# Altium schematic symbol library chipfc_libs.SchLib: 124 symbols
Pins are listed as number, name and electrical type; pins without a type are passive.

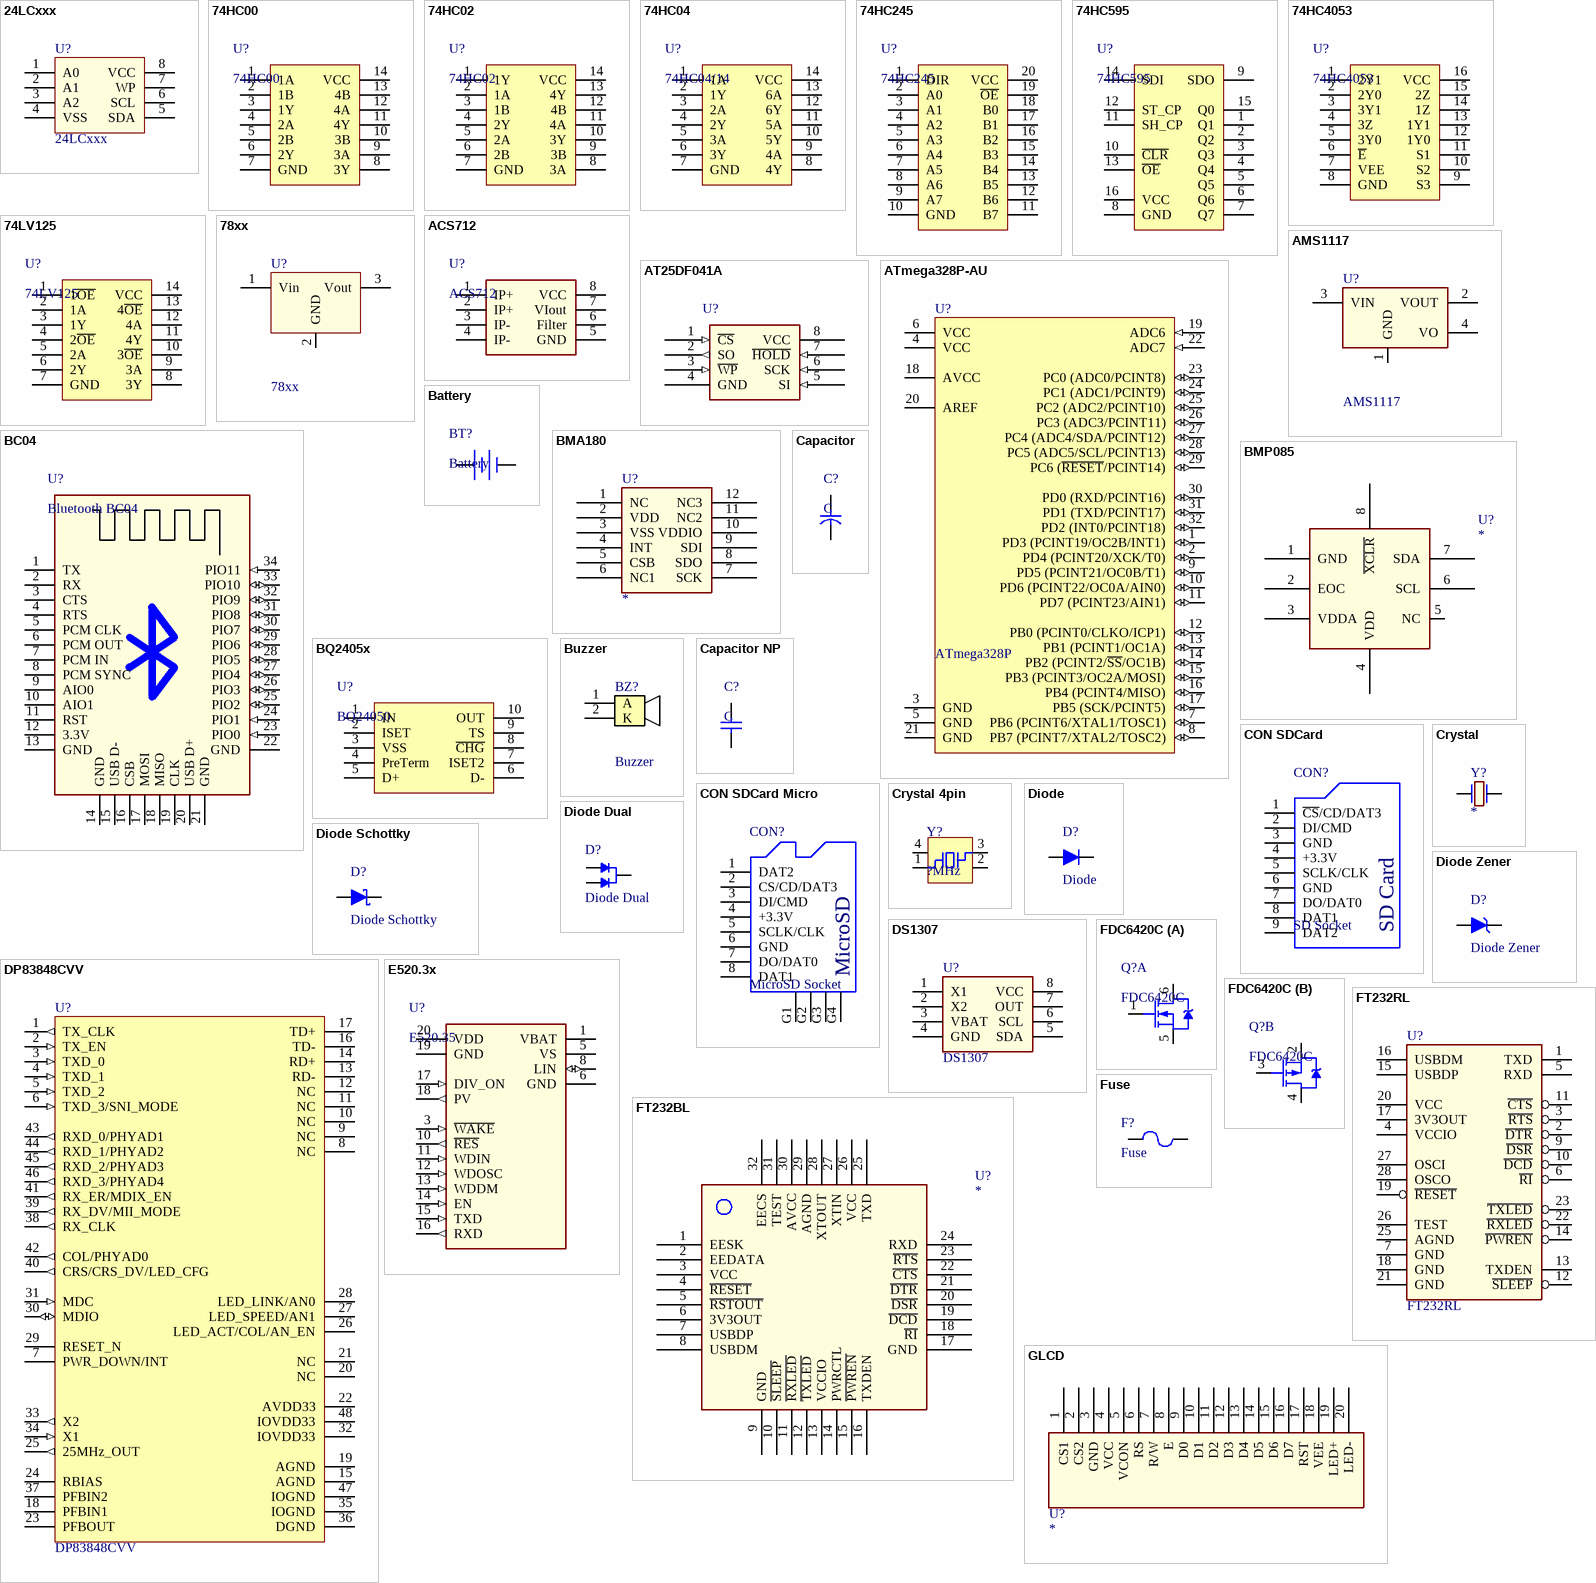
[diagram p0: symbols 24LCxxx to GLCD]

## 24LCxxx
designator U?
2-Wire Serial EEPROM
footprint SOIC-8 (SOIC, 8-Leads, Body 5.0x4.0mm (max), Pitch 1.27mm, IPC Medium Density)
footprint DIP 8 (DIP IC (2.54mm), 8 pins)
pins: 1 A0, 2 A1, 3 A2, 4 VSS, 5 SDA, 6 SCL, 7 WP, 8 VCC

## 74HC00
designator U?
Quad 2-input NAND gate
footprint SOIC-14 (SOIC, 14-Leads, Body 8.6x3.9mm (max), Pitch 1.27mm, IPC Medium Density)
pins: 1 1A, 2 1B, 3 1Y, 4 2A, 5 2B, 6 2Y, 7 GND, 8 3Y, 9 3A, 10 3B, 11 4Y, 12 4A, 13 4B, 14 VCC

## 74HC02
designator U?
Quad 2-input NOR gate
footprint SOIC-14 (SOIC, 14-Leads, Body 8.6x3.9mm (max), Pitch 1.27mm, IPC Medium Density)
pins: 1 1Y, 2 1A, 3 1B, 4 2Y, 5 2A, 6 2B, 7 GND, 8 3A, 9 3B, 10 3Y, 11 4A, 12 4B, 13 4Y, 14 VCC

## 74HC04
designator U?, comment 74HC04/14
Hex inverter
footprint SOIC-14 (SOIC, 14-Leads, Body 8.6x3.9mm (max), Pitch 1.27mm, IPC Medium Density)
pins: 1 1A, 2 1Y, 3 2A, 4 2Y, 5 3A, 6 3Y, 7 GND, 8 4Y, 9 4A, 10 5Y, 11 5A, 12 6Y, 13 6A, 14 VCC

## 74HC245
designator U?
Octal bus tranceiver, 3-state
footprint SOIC-20 (SOIC, 20-Leads, Body 12.8x7.5mm (max), Pitch 1.27mm, IPC Medium Density)
footprint DIP 20
pins: 1 DIR, 2 A0, 3 A1, 4 A2, 5 A3, 6 A4, 7 A5, 8 A6, 9 A7, 10 GND, 11 B7, 12 B6, 13 B5, 14 B4, 15 B3, 16 B2, 17 B1, 18 B0, 19 ~{OE}, 20 VCC

## 74HC595
designator U?
8-bit serial-in, serial or parallel-out  shift register with output latches;  3-state
footprint SOIC-16 (SOIC, 16-Leads, Body 10.0x4.0mm (max), Pitch 1.27mm, IPC Medium Density)
pins: 1 Q1, 2 Q2, 3 Q3, 4 Q4, 5 Q5, 6 Q6, 7 Q7, 8 GND, 9 SDO, 10 ~{CLR}, 11 SH_CP, 12 ST_CP, 13 ~{OE}, 14 SDI, 15 Q0, 16 VCC

## 74HC4053
designator U?
Triple 2-channel analog multiplexer/demultiplexer
footprint SOIC-16 (SOIC, 16-Leads, Body 10.0x4.0mm (max), Pitch 1.27mm, IPC Medium Density)
pins: 1 2Y1, 2 2Y0, 3 3Y1, 4 3Z, 5 3Y0, 6 ~{E}, 7 VEE, 8 GND, 9 S3, 10 S2, 11 S1, 12 1Y0, 13 1Y1, 14 1Z, 15 2Z, 16 VCC

## 74LV125
designator U?
Quad buffer/line driver; 3-state
footprint SOIC-14 (SOIC, 14-Leads, Body 8.6x3.9mm (max), Pitch 1.27mm, IPC Medium Density)
pins: 1 1~{OE}, 2 1A, 3 1Y, 4 2~{OE}, 5 2A, 6 2Y, 7 GND, 8 3Y, 9 3A, 10 3~{OE}, 11 4Y, 12 4A, 13 4~{OE}, 14 VCC

## 78xx
designator U?
LDO Fixed Voltage regulator
footprint TO-92; pin to pad 1>3 3>1
footprint TO-220
footprint TO-252 (DPAK) (D-PAK, 3-Pads, Body 6.2x6.7mm (max), IPC Medium Density)
footprint TO-220AB L
footprint TO-92/W100; pin to pad 1>3 3>1
pins: 1 Vin (power), 2 GND, 3 Vout

## ACS712
designator U?
Fully Integrated, Hall Effect-Based Linear Current Sensor IC   with 2.1 kVRMS Isolation and a Low-Resistance Current Conductor
footprint SOIC-8 (SOIC, 8-Leads, Body 5.0x4.0mm (max), Pitch 1.27mm, IPC Medium Density)
pins: 1 IP+, 2 IP+, 3 IP-, 4 IP-, 5 GND, 6 Filter, 7 VIout, 8 VCC

## AMS1117
designator U?
1A LDO Voltage Regulator, ADJ or fixed 1.5/1.8/2.5/2.85/3.3/5V
footprint SOT-223 (SOT223, 4-Leads, Body 6.7x7.3mm (max), Pitch 2.30mm, IPC Medium Density)
pins: 1 GND, 2 VOUT, 3 VIN (power), 4 VO

## AT25DF041A
designator U?
4Mb SPI Serial Flash Memory
footprint SOIC-8 (SOIC, 8-Leads, Body 5.0x4.0mm (max), Pitch 1.27mm, IPC Medium Density)
pins: 1 ~{CS} (in), 2 SO (out), 3 ~{WP} (in), 4 GND (power), 5 SI (in), 6 SCK (in), 7 ~{HOLD} (in), 8 VCC (power)

## ATmega328P-AU
designator U?, comment ATmega328P
8-bit AVR Microcontroller, 32KB Flash, 1KB EEPROM, 2KB SRAM, 32-pin TQFP, Industrial Grade (-40°C to 85°C)
footprint QFP 80P 32 (TQFP, 32-Leads, Body 9.0x9.0mm (max), Pitch 0.80mm, IPC Medium Density)
pins: 1 PD3 (PCINT19/OC2B/INT1) (io), 2 PD4 (PCINT20/XCK/T0) (io), 3 GND (power), 4 VCC (power), 5 GND (power), 6 VCC (power), 7 PB6 (PCINT6/XTAL1/TOSC1) (io), 8 PB7 (PCINT7/XTAL2/TOSC2) (io), 9 PD5 (PCINT21/OC0B/T1) (io), 10 PD6 (PCINT22/OC0A/AIN0) (io), 11 PD7 (PCINT23/AIN1) (io), 12 PB0 (PCINT0/CLKO/ICP1) (io), 13 PB1 (PCINT1/OC1A) (io), 14 PB2 (PCINT2/~{SS}/OC1B) (io), 15 PB3 (PCINT3/OC2A/MOSI) (io), 16 PB4 (PCINT4/MISO) (io), 17 PB5 (SCK/PCINT5) (io), 18 AVCC (power), 19 ADC6 (in), 20 AREF, 21 GND (power), 22 ADC7 (in), 23 PC0 (ADC0/PCINT8) (io), 24 PC1 (ADC1/PCINT9) (io), 25 PC2 (ADC2/PCINT10) (io), 26 PC3 (ADC3/PCINT11) (io), 27 PC4 (ADC4/SDA/PCINT12) (io), 28 PC5 (ADC5/SCL/PCINT13) (io), 29 PC6 (~{RESET}/PCINT14) (io), 30 PD0 (RXD/PCINT16) (io), 31 PD1 (TXD/PCINT17) (io), 32 PD2 (INT0/PCINT18) (io)

## Battery
designator BT?
footprint CON CR2032
footprint CON CR1220
footprint CR2032
footprint CR2450
footprint CR2450 DIP
footprint BB-BAT-18650-x1
pins: 1 V+, 2 V-

## BC04
designator U?, comment Bluetooth BC04
Bluetooth module uses CSR BlueCore4-External chipsets.
footprint BC04 (Bluetooth module uses CSR BlueCore4-External chipsets.)
pins: 1 TX, 2 RX, 3 CTS, 4 RTS, 5 PCM CLK, 6 PCM OUT, 7 PCM IN, 8 PCM SYNC, 9 AIO0, 10 AIO1, 11 RST, 12 3.3V, 13 GND, 14 GND, 15 USB D-, 16 CSB, 17 MOSI, 18 MISO, 19 CLK, 20 USB D+, 21 GND, 22 GND, 23 PIO0 (in), 24 PIO1 (in), 25 PIO2 (io), 26 PIO3 (io), 27 PIO4 (io), 28 PIO5 (io), 29 PIO6 (io), 30 PIO7 (io), 31 PIO8 (io), 32 PIO9 (io), 33 PIO10 (io), 34 PIO11 (in)

## BMA180
designator U?
pins: 1 NC, 2 VDD, 3 VSS, 4 INT, 5 CSB, 6 NC1, 7 SCK, 8 SDO, 9 SDI, 10 VDDIO, 11 NC2, 12 NC3

## BMP085
designator U?
pins: 1 GND (power), 2 EOC, 3 VDDA (power), 4 VDD (power), 5 NC, 6 SCL, 7 SDA, 8 ~{XCLR}

## BQ2405x
designator U?, comment BQ24050
800mA, Single Cell Li-Ion and Li-Pol Battery Charger With Automatic Adaptor and USB Detection
footprint QFN 40P 10N (QFN, 10-Leads, Body 2.1x2.1mm (max), Pitch 0.40mm, IPC Low Density)
pins: 1 IN, 2 ISET, 3 VSS, 4 PreTerm, 5 D+, 6 D-, 7 ISET2, 8 ~{CHG}, 9 TS, 10 OUT

## Buzzer
designator BZ?
footprint BUZZER
footprint Buzzer SMD
footprint BUZZER-2 (DC Buzzer 5V/12V)
pins: 1 A, 2 K

## Capacitor
designator C?, comment C
Capacitor pol
footprint C SMD TAN 1206 (A) (Molded Capacitor, 2-Leads, Body 3.2x1.6mm, IPC Medium Density)
footprint C SMD TAN 2312 (C) (Molded Capacitor, 2-Leads, Body 6.0x3.2mm, IPC Medium Density)
footprint C SMD TAN 2917 (E) (Molded Capacitor, 2-Leads, Body 7.3x4.3mm, IPC Medium Density)
footprint C SMD ALU (D) (SMD Aluminum Electrolytic Capacitor, size D (6.3 x 5.4 mm))
footprint C SMD ALU (D8) (SMD Aluminum Electrolytic Capacitor, size D8 (6.3 x 7.7 mm))
footprint C SMD ALU (B) (SMD Aluminum Electrolytic Capacitor, size D (4.0 x 5.4 mm))
footprint C SMD ALU (F) (SMD Aluminum Electrolytic Capacitor, size F (8.0 x 10.2 mm))
footprint C Super Case A
footprint C Super Case B
footprint CYL/D.200/LS.75
footprint CYL/D.250/LS.100
footprint CYL/D.300/LS.150
footprint CYL/D.400/LS.200
footprint CYL/D.500/LS.200
footprint CYL/D.650/LS.300
footprint CAP/D80/H125/LS30 (Dia 8mm, Heigh 12.5mm, Lead Space 3mm (4.7uF/400V small))
footprint CAP/D80/H125/LS35 (Dia 8mm, Heigh 12.5mm, Lead Space 3.5mm (470uF/16V small))
footprint CAP/D100/H125/LS50 (Dia 8mm, Heigh 12.5mm, Lead Space 3.5mm (470uF/16V small))
footprint CAP/D80/H90/LS35 (Dia 8mm, Heigh 12.5mm, Lead Space 3mm (4.7uF/400V small))
footprint C SMD ALU (F) DUAL (SMD Aluminum Electrolytic Capacitor, size F (8.0 x 10.2 mm))
footprint C SMD ALU (D8) DUAL (SMD Aluminum Electrolytic Capacitor, size D8 (6.3 x 7.7 mm))
footprint C SMD TAN 1210 (B) (Molded Capacitor, 2-Leads, Body 6.0x3.2mm, IPC Medium Density)
pins: 1, 2

## Capacitor NP
designator C?, comment C
Capacitor non-pol
footprint C 0402 (Chip Capacitor, 2-Leads, Body 1.0x0.5mm, IPC Medium Density)
footprint C 0603 (Chip Capacitor, 2-Leads, Body 1.6x0.8mm, IPC Medium Density)
footprint C 0805 (Chip Capacitor, 2-Leads, Body 2.0x1.3mm, IPC Medium Density)
footprint CAP Ceramic/W550
footprint CAP Ceramic/W200
footprint CAP Ceramic/W300
footprint CC 0402 (Chip Capacitor, 2-Leads, Body 1.0x0.5mm, IPC Medium Density)
footprint C 1210
footprint C 1206
footprint CAP Ceramic/D7.0/F7.5
pins: 1, 2

## CON SDCard
designator CON?, comment SD Socket
footprint CON SD
pins: 1 ~{CS}/CD/DAT3, 2 DI/CMD, 3 GND (power), 4 +3.3V (power), 5 SCLK/CLK, 6 GND (power), 7 DO/DAT0, 8 DAT1, 9 DAT2
text: SD Card

## CON SDCard Micro
designator CON?, comment MicroSD Socket
footprint CON SD Micro
pins: 1 DAT2, 2 CS/CD/DAT3, 3 DI/CMD (power), 4 +3.3V (power), 5 SCLK/CLK, 6 GND (power), 7 DO/DAT0, 8 DAT1, G1, G2, G3, G4
text: MicroSD

## Crystal
designator Y?
footprint Crystal DIP-2 (Available for crystal 32.768kHz)
footprint Crystal HC49S DIP
footprint Crystal HC49US SMD
footprint Crystal SMD 4PIN 32x25; pin to pad 2>3
footprint Crystal 3215 (Crystal 3.2mm x 1.5mm SMD)
pins: 1, 2

## Crystal 4pin
designator Y?, comment ?MHz
footprint Crystal SMD 4PIN 50x32
footprint Crystal SMD 4PIN 25x20
footprint Crystal SMD 4PIN 32x25
pins: 1 XTAL, 2 GND, 3 XTAL, 4 GND

## Diode
designator D?
Default Diode
footprint DO-214AC (SMA) (Molded Diode, 2-Leads, Body 4.3x2.7mm, IPC Medium Density)
footprint DO-41
footprint DO-214AB (SMC) (Molded Diode, 2-Leads, Body 7.9x5.8mm, IPC Low Density)
footprint DO-27
footprint Diode SOD80C Reflow
footprint Diode SOD80C Wave
footprint Diode SOD-123
footprint DO-35 (SOD27 )
footprint DO-214AC (SMA) L (Molded Diode, 2-Leads, Body 4.3x2.7mm, IPC Medium Density)
footprint Diode PowerDI123
footprint DO-214AA (SMB) L
pins: 1 A, 2 K

## Diode Dual
designator D?
Dual Default Diode
footprint SOT-23 (SOT23, 3-Leads, Body 3.0x2.5mm (max), Pitch 0.95mm, IPC Medium Density)
pins: 1 A1, 2 A2, 3 K

## Diode Schottky
designator D?
Schottky Diode
footprint DO-214AB (SMC) (Molded Diode, 2-Leads, Body 7.9x5.8mm, IPC Low Density)
footprint DO-214AC (SMA) (Molded Diode, 2-Leads, Body 4.3x2.7mm, IPC Medium Density)
footprint DO-27
footprint DO-41
pins: 1 A, 2 K

## Diode Zener
designator D?
Zener Diode
footprint DO-41
footprint DO-214AC (SMA) (Molded Diode, 2-Leads, Body 4.3x2.7mm, IPC Medium Density)
footprint DO-214AA (SMB) L
pins: 1 A, 2 K

## DP83848CVV
designator U?
footprint QFP 50P 48 (TSQFP, 48-Leads, Body 9.2x9.2mm (max), Pitch 0.50mm, IPC Medium Density)
pins: 1 TX_CLK (out), 2 TX_EN (in), 3 TXD_0 (in), 4 TXD_1 (in), 5 TXD_2 (in), 6 TXD_3/SNI_MODE (in), 7 PWR_DOWN/INT, 8 NC, 9 NC, 10 NC, 11 NC, 12 NC, 13 RD-, 14 RD+, 15 AGND, 16 TD-, 17 TD+, 18 PFBIN1, 19 AGND, 20 NC, 21 NC, 22 AVDD33, 23 PFBOUT, 24 RBIAS, 25 25MHz_OUT (out), 26 LED_ACT/COL/AN_EN, 27 LED_SPEED/AN1, 28 LED_LINK/AN0, 29 RESET_N, 30 MDIO (io), 31 MDC (in), 32 IOVDD33, 33 X2 (out), 34 X1 (in), 35 IOGND, 36 DGND, 37 PFBIN2, 38 RX_CLK (out), 39 RX_DV/MII_MODE (out), 40 CRS/CRS_DV/LED_CFG (out), 41 RX_ER/MDIX_EN (out), 42 COL/PHYAD0 (out), 43 RXD_0/PHYAD1 (out), 44 RXD_1/PHYAD2 (out), 45 RXD_2/PHYAD3 (out), 46 RXD_3/PHYAD4 (out), 47 IOGND, 48 IOVDD33

## DS1307
designator U?
footprint DIP 8 (DIP IC (2.54mm), 8 pins)
pins: 1 X1, 2 X2, 3 VBAT, 4 GND, 5 SDA, 6 SCL, 7 OUT, 8 VCC

## E520.3x
designator U?, comment E520.35
Elmos LIN SBC with Voltage Regulator and Watchdog
footprint QFN 65P 20 (QFN, 20-Leads, Body 5.0x5.0mm (max), Pitch 0.65mm, IPC Low Density)
pins: 1 VBAT (power), 3 ~{WAKE} (in), 5 VS (power), 6 GND (power), 8 LIN (io), 10 ~{RES} (out), 11 WDIN (in), 12 WDOSC (in), 13 WDDM (in), 14 EN (in), 15 TXD (in), 16 RXD (out), 17 DIV_ON (in), 18 PV (out), 19 GND (power), 20 VDD (power)

## FDC6420C
designator Q?
Fairchild 20V N & P-Channel PowerTrench MOSFETs
footprint SOT-23-6 (SOT23, 6-Leads, Body 3.0x3.0mm (max), Pitch 0.95mm, IPC Medium Density)
part A pins: 1 G, 5 S, 6 D
part B pins: 2 S, 3 G, 4 D

## FT232BL
designator U?
pins: 1 EESK, 2 EEDATA, 3 VCC (power), 4 ~{RESET}, 5 ~{RSTOUT}, 6 3V3OUT, 7 USBDP, 8 USBDM, 9 GND (power), 10 ~{SLEEP}, 11 ~{RXLED}, 12 ~{TXLED}, 13 VCCIO (power), 14 PWRCTL, 15 ~{PWREN}, 16 TXDEN, 17 GND (power), 18 ~{RI}, 19 ~{DCD}, 20 ~{DSR}, 21 ~{DTR}, 22 ~{CTS}, 23 ~{RTS}, 24 RXD, 25 TXD, 26 VCC (power), 27 XTIN, 28 XTOUT, 29 AGND (power), 30 AVCC (power), 31 TEST, 32 EECS

## FT232RL
designator U?
USB to serial UART interface
footprint TSSOP 28 65P (SOP, 28-Leads, Body 10.5x5.6mm (max), Pitch 0.65mm, IPC Medium Density)
pins: 1 TXD, 2 ~{DTR}, 3 ~{RTS}, 4 VCCIO, 5 RXD, 6 ~{RI}, 7 GND (power), 9 ~{DSR}, 10 ~{DCD}, 11 ~{CTS}, 12 ~{SLEEP}, 13 TXDEN, 14 ~{PWREN}, 15 USBDP, 16 USBDM, 17 3V3OUT, 18 GND (power), 19 ~{RESET}, 20 VCC (power), 21 GND (power), 22 ~{RXLED}, 23 ~{TXLED}, 25 AGND, 26 TEST, 27 OSCI, 28 OSCO

## Fuse
designator F?
footprint Fuse 1812P050 (Fuse 1812P050, 2-Leads, Body 4.5x3.2mm, IPC Medium Density)
footprint FUSE 4 DIP
footprint FUSE 2 DIP - KSD 9700
footprint FUSE 4 DIP 0520 (5mm x 20mm)
pins: 1, 2

## GLCD
designator U?
pins: 1 CS1, 2 CS2, 3 GND, 4 VCC, 5 VCON, 6 RS, 7 R/W, 8 E, 9 D0, 10 D1, 11 D2, 12 D3, 13 D4, 14 D5, 15 D6, 16 D7, 17 RST, 18 VEE, 19 LED+, 20 LED-

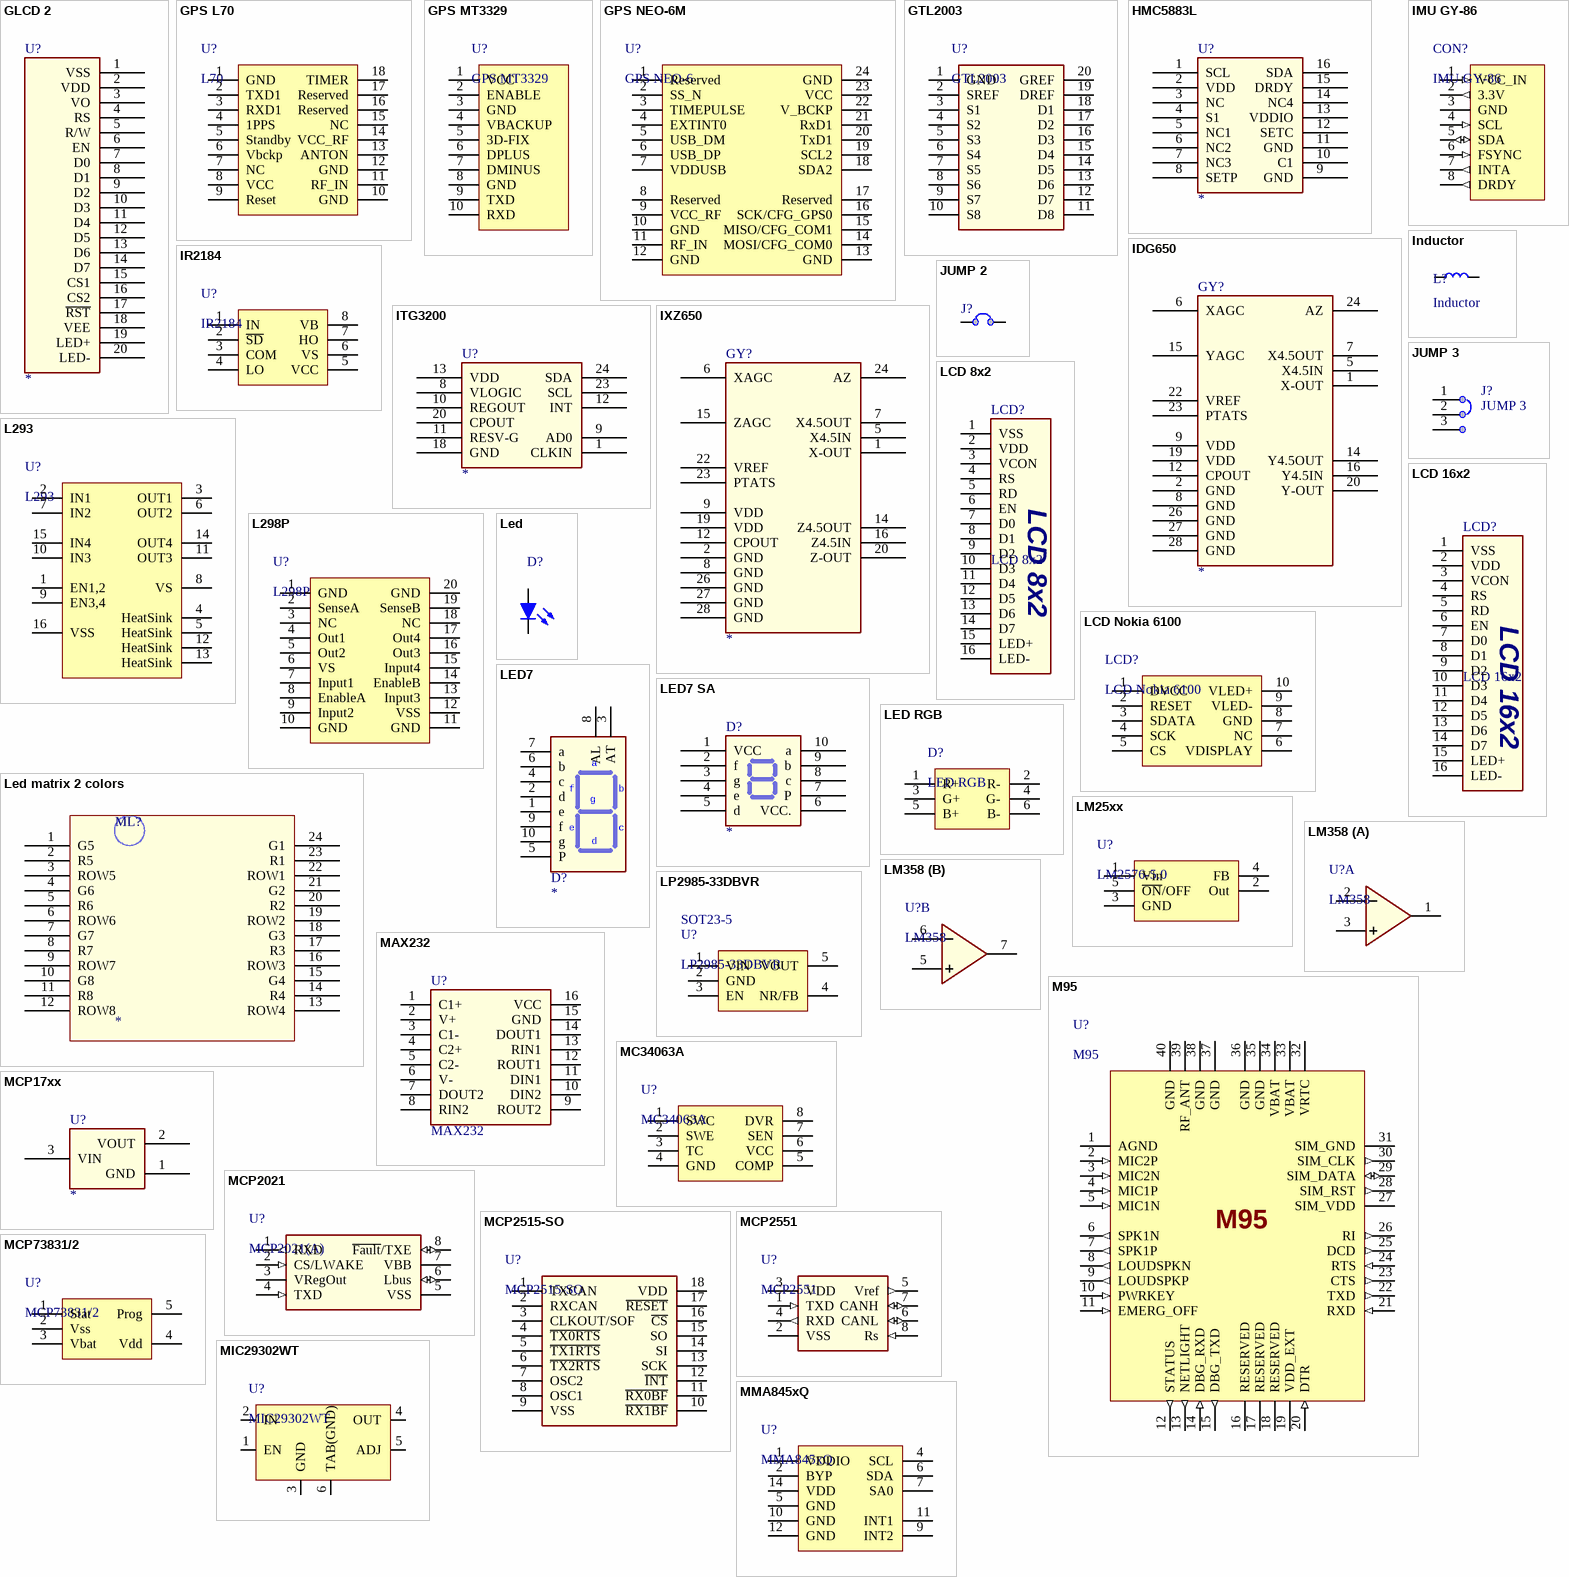
[diagram p1: symbols GLCD 2 to MMA845xQ]

## GLCD 2
designator U?
pins: 1 VSS, 2 VDD, 3 VO, 4 RS, 5 R/W, 6 EN, 7 D0, 8 D1, 9 D2, 10 D3, 11 D4, 12 D5, 13 D6, 14 D7, 15 CS1, 16 CS2, 17 ~{RST}, 18 VEE, 19 LED+, 20 LED-

## GPS L70
designator U?, comment L70
Quectel's GPS module L70
footprint GPS L70 (LCC, 18-Pins, Body 9.7x10.1mm (max), Pitch 1.10mm, IPC Medium Density)
pins: 1 GND, 2 TXD1, 3 RXD1, 4 1PPS, 5 Standby, 6 Vbckp, 7 NC, 8 VCC, 9 Reset, 10 GND, 11 RF_IN, 12 GND, 13 ANTON, 14 VCC_RF, 15 NC, 16 Reserved, 17 Reserved, 18 TIMER

## GPS MT3329
designator U?
66-channel GPS Engine Board Antenna Module with MTK Chipset MEDIATEK-3329
footprint GPS MT3329 (66-channel GPS Engine Board Antenna Module with MTK Chipset MEDIATEK-3329)
pins: 1 VCC, 2 ENABLE, 3 GND, 4 VBACKUP, 5 3D-FIX, 6 DPLUS, 7 DMINUS, 8 GND, 9 TXD, 10 RXD

## GPS NEO-6M
designator U?, comment GPS NEO-6
NEO-6 series Versatile u-blox 6 GPS modules
footprint GPS NEO-6
pins: 1 Reserved, 2 SS_N, 3 TIMEPULSE, 4 EXTINT0, 5 USB_DM, 6 USB_DP, 7 VDDUSB, 8 Reserved, 9 VCC_RF, 10 GND, 11 RF_IN, 12 GND, 13 GND, 14 MOSI/CFG_COM0, 15 MISO/CFG_COM1, 16 SCK/CFG_GPS0, 17 Reserved, 18 SDA2, 19 SCL2, 20 TxD1, 21 RxD1, 22 V_BCKP, 23 VCC, 24 GND

## GTL2003
designator U?
8-bit bidirectional low voltage translator
footprint TSSOP 20 65P (TSOP, 20-Leads, Body 6.6x4.5mm (max), Pitch 0.65mm, IPC Medium Density)
pins: 1 GND (power), 2 SREF, 3 S1, 4 S2, 5 S3, 6 S4, 7 S5, 8 S6, 9 S7, 10 S8, 11 D8, 12 D7, 13 D6, 14 D5, 15 D4, 16 D3, 17 D2, 18 D1, 19 DREF, 20 GREF

## HMC5883L
designator U?
pins: 1 SCL, 2 VDD (power), 3 NC, 4 S1, 5 NC1, 6 NC2, 7 NC3, 8 SETP, 9 GND (power), 10 C1, 11 GND (power), 12 SETC, 13 VDDIO, 14 NC4, 15 DRDY, 16 SDA

## IDG650
designator GY?
pins: 1 X-OUT, 2 GND (power), 5 X4.5IN, 6 XAGC, 7 X4.5OUT, 8 GND (power), 9 VDD (power), 12 CPOUT, 14 Y4.5OUT, 15 YAGC, 16 Y4.5IN, 19 VDD (power), 20 Y-OUT, 22 VREF, 23 PTATS, 24 AZ, 26 GND (power), 27 GND (power), 28 GND (power)

## IMU GY-86
designator CON?
IMU GY-86, includes MPU6050, HMC5883L, MS5611
footprint IMU GY-86 (IMU GY-86, includes MPU6050, HMC5883L, MS5611)
pins: 1 VCC_IN (in), 2 3.3V (out), 3 GND (power), 4 SCL (in), 5 SDA (io), 6 FSYNC (in), 7 INTA (out), 8 DRDY (out)

## Inductor
designator L?
footprint Inductor SMD 12x12x8 (Precision Wire Wound Inductor, 2-Leads, Body 12.3x12.3mm, IPC Low Density)
footprint R 1/4W
footprint Inductor SMD 8.3x8.3x4.5 (Precision Wire Wound Inductor, 2-Leads, Body 10.0x8.0mm, IPC Low Density)
footprint Inductor SMD 0805 (2012) (Precision Wire Wound Inductor, 2-Leads, Body 2.0x1.2mm, IPC Medium Density)
footprint Inductor SMD 1210 (3225) (Precision Wire Wound Inductor, 2-Leads, Body 3.2x2.5mm, IPC Medium Density)
footprint Inductor SMD 7.5x7.0x5.0 (Precision Wire Wound Inductor, 2-Leads, Body 7.5x7.0mm, IPC Medium Density)
footprint Inductor SMD CDRH8D43 (Precision Wire Wound Inductor, 2-Leads, Body 10.0x8.0mm, IPC Low Density)
footprint Inductor SMD CDRH3D48 (Precision Wire Wound Inductor, 2-Leads, Body 10.0x8.0mm, IPC Low Density)
footprint Inductor SMD CDRH3D67 (Precision Wire Wound Inductor, 2-Leads, Body 10.0x8.0mm, IPC Low Density)
footprint L 0402 (1005) (Chip Capacitor, 2-Leads, Body 1.0x0.5mm, IPC Medium Density)
footprint L 0603 (1608) (Chip Capacitor, 2-Leads, Body 1.6x0.8mm, IPC Medium Density)
footprint L 0805 (2012) (Chip Capacitor, 2-Leads, Body 2.0x1.3mm, IPC Medium Density)
footprint LL 0402 (Chip Capacitor, 2-Leads, Body 1.0x0.5mm, IPC Medium Density)
footprint L/D9H12 (inductor)
footprint L/D8H10 (inductor Dia (7.80mm) Heigh (10.00mm))
pins: 1, 2

## IR2184
designator U?
Half-bridge driver
footprint DIP 8 (DIP IC (2.54mm), 8 pins)
footprint SOIC-8 (SOIC, 8-Leads, Body 5.0x4.0mm (max), Pitch 1.27mm, IPC Medium Density)
pins: 1 IN, 2 ~{SD}, 3 COM, 4 LO, 5 VCC, 6 VS, 7 HO, 8 VB

## ITG3200
designator U?
pins: 1 CLKIN, 8 VLOGIC (power), 9 AD0, 10 REGOUT, 11 RESV-G, 12 INT, 13 VDD (power), 18 GND (power), 20 CPOUT, 23 SCL, 24 SDA

## IXZ650
designator GY?
pins: 1 X-OUT, 2 GND (power), 5 X4.5IN, 6 XAGC, 7 X4.5OUT, 8 GND (power), 9 VDD (power), 12 CPOUT, 14 Z4.5OUT, 15 ZAGC, 16 Z4.5IN, 19 VDD (power), 20 Z-OUT, 22 VREF, 23 PTATS, 24 AZ, 26 GND (power), 27 GND (power), 28 GND (power)

## JUMP 2
designator J?  (value not drawn)  (no BOM)
footprint JUMP/2/Close
footprint JUMP/2/Open
footprint JUMP/2/SMD/0402
footprint JUMP/2/SMD/0603 (Chip Resistor, 2-Leads, Body 1.6x0.8mm, IPC Medium Density)
footprint JUMP/2/SMD/0805 (Chip Resistor, 2-Leads, Body 2.0x1.3mm, IPC Medium Density)
footprint JUMP/2/SMD/C (Chip Resistor, 2-Leads, Body 1.6x0.8mm, IPC Medium Density)
pins: 1, 2

## JUMP 3
designator J?  (no BOM)
footprint JUMP3 SMD
footprint JUMP3
pins: 1, 2, 3

## L293
designator U?
Quadruple Half-H drivers
footprint DIP 16
pins: 1 EN1,2, 2 IN1, 3 OUT1, 4 HeatSink, 5 HeatSink, 6 OUT2, 7 IN2, 8 VS, 9 EN3,4, 10 IN3, 11 OUT3, 12 HeatSink, 13 HeatSink, 14 OUT4, 15 IN4, 16 VSS

## L298P
designator U?
Dual Full-Bridge driver
footprint PowerSO20 (SOIC, 20-Leads, Body 16.0x11.1mm (max), Pitch 1.27mm, IPC Low Density)
pins: 1 GND, 2 SenseA, 3 NC, 4 Out1, 5 Out2, 6 VS, 7 Input1, 8 EnableA, 9 Input2, 10 GND, 11 GND, 12 VSS, 13 Input3, 14 EnableB, 15 Input4, 16 Out3, 17 Out4, 18 NC, 19 SenseB, 20 GND

## LCD 8x2
designator LCD?
Character LCD 8x2
footprint LCD 8x2
pins: 1 VSS, 2 VDD, 3 VCON, 4 RS, 5 RD, 6 EN, 7 D0, 8 D1, 9 D2, 10 D3, 11 D4, 12 D5, 13 D6, 14 D7, 15 LED+, 16 LED-

## LCD 16x2
designator LCD?
Character LCD 16x2
footprint LCD 16x2
footprint LCD 1602A
footprint LCD 1602B
pins: 1 VSS, 2 VDD, 3 VCON, 4 RS, 5 RD, 6 EN, 7 D0, 8 D1, 9 D2, 10 D3, 11 D4, 12 D5, 13 D6, 14 D7, 15 LED+, 16 LED-

## LCD Nokia 6100
designator LCD?
footprint LCD NOKIA 6100
pins: 1 DVCC, 2 RESET, 3 SDATA, 4 SCK, 5 CS, 6 VDISPLAY, 7 NC, 8 GND, 9 VLED-, 10 VLED+

## Led
designator D?
Typical LED
footprint Led 0805 (Led SMD 0805)
footprint Led 0603 - green (Led SMD 0603)
footprint Led 0603 - orange (Led SMD 0603)
footprint Led 0603 - red (Led SMD 0603)
footprint Led 0603 - yellow (Led SMD 0603)
footprint Led 0603 (Led SMD 0603)
footprint LED 3MM - green
footprint LED 3MM - red
footprint LED 5MM - GREEN
footprint LED 5MM - RED
footprint LED 5MM - WHITE
footprint Led 0805 Blue (Led SMD 0805)
footprint Led 0805 Green (Led SMD 0805)
footprint Led 0805 RED (Led SMD 0805)
footprint LED 3MM - blue
footprint LED 3MM - yellow
pins: 1 A, 2 K

## LED7
designator D?
footprint LED7 CA
pins: 1 e, 2 d, 3 AT, 4 c, 5 P, 6 b, 7 a, 8 AL, 9 f, 10 g

## LED7 SA
designator D?
pins: 1 VCC, 2 f, 3 g, 4 e, 5 d, 6 VCC., 7 P, 8 c, 9 b, 10 a

## Led matrix 2 colors
designator ML?
pins: 1 G5, 2 R5, 3 ROW5, 4 G6, 5 R6, 6 ROW6, 7 G7, 8 R7, 9 ROW7, 10 G8, 11 R8, 12 ROW8, 13 ROW4, 14 R4, 15 G4, 16 ROW3, 17 R3, 18 G3, 19 ROW2, 20 R2, 21 G2, 22 ROW1, 23 R1, 24 G1

## LED RGB
designator D?
footprint LED RGB 5050
pins: 1 R+, 2 R-, 3 G+, 4 G-, 5 B+, 6 B-

## LM25xx
designator U?, comment LM2576-5.0
Simple Switcher 3A Step-Down Voltage Regulator
footprint TO-263-5 (D2-PAK, 6-Pads, Body 8.9x10.4mm (max), IPC Medium Density)
footprint TO-220-5
pins: 1 Vin, 2 Out, 3 GND, 4 FB, 5 ~{ON}/OFF

## LM358
designator U?
Low Power Dual Operational Amplifiers
footprint DIP 8 (DIP IC (2.54mm), 8 pins)
footprint SOIC-8 (SOIC, 8-Leads, Body 5.0x4.0mm (max), Pitch 1.27mm, IPC Medium Density)
part A pins: 1 OutA, 2 A-, 3 A+, 4 GND hidden to GND, 8 VCC hidden to VCC
part B pins: 5 B+, 6 B-, 7 OutB

## LP2985-33DBVR
designator U?  PACKAGE: SOT23-5
IC REG LDO 3.3V 0.15A SOT23-5; TYPE: SMD
footprint SOT-23-5 (SOT23, 5-Leads, Body 3.0x3.0mm (max), Pitch 0.95mm, IPC Medium Density)
pins: 1 VIN, 2 GND, 3 EN, 4 NR/FB, 5 VOUT

## M95
designator U?
Quectel's Cellular Engine
footprint M95 (LCC, 54-Pins, Body 19.9x23.6mm (max), Pitch 1.10mm, IPC Medium Density)
footprint M95 2 (LCC, 54-Pins, Body 19.9x23.6mm (max), Pitch 1.10mm, IPC Medium Density)
pins: 1 AGND (power), 2 MIC2P (in), 3 MIC2N (in), 4 MIC1P (in), 5 MIC1N (in), 6 SPK1N (out), 7 SPK1P (out), 8 LOUDSPKN (out), 9 LOUDSPKP (out), 10 PWRKEY (in), 11 EMERG_OFF (in), 12 STATUS (out), 13 NETLIGHT (out), 14 DBG_RXD (in), 15 DBG_TXD (out), 16 RESERVED, 17 RESERVED, 18 RESERVED, 19 VDD_EXT (power), 20 DTR (in), 21 RXD (in), 22 TXD (out), 23 CTS (out), 24 RTS (in), 25 DCD (out), 26 RI (out), 27 SIM_VDD (power), 28 SIM_RST (out), 29 SIM_DATA (io), 30 SIM_CLK (out), 31 SIM_GND (power), 32 VRTC (power), 33 VBAT (power), 34 VBAT (power), 35 GND (power), 36 GND (power), 37 GND (power), 38 GND (power), 39 RF_ANT, 40 GND (power)

## MAX232
designator U?
RS-232 Line Driver/Receiver
footprint SOIC-16 (SOIC, 16-Leads, Body 10.0x4.0mm (max), Pitch 1.27mm, IPC Medium Density)
pins: 1 C1+, 2 V+, 3 C1-, 4 C2+, 5 C2-, 6 V-, 7 DOUT2, 8 RIN2, 9 ROUT2, 10 DIN2, 11 DIN1, 12 ROUT1, 13 RIN1, 14 DOUT1, 15 GND, 16 VCC

## MC34063A
designator U?
1.5A peak Boost/Buck/Inverting switching regulator
footprint SOIC-8 (SOIC, 8-Leads, Body 5.0x4.0mm (max), Pitch 1.27mm, IPC Medium Density)
pins: 1 SWC, 2 SWE, 3 TC, 4 GND, 5 COMP, 6 VCC, 7 SEN, 8 DVR

## MCP17xx
designator U?
pins: 1 GND (power), 2 VOUT (power), 3 VIN (power)

## MCP2021
designator U?, comment MCP2021(A)
LIN Transceiver with Voltage Regulator
footprint SOIC-8 (SOIC, 8-Leads, Body 5.0x4.0mm (max), Pitch 1.27mm, IPC Medium Density)
pins: 1 RXD (out), 2 CS/LWAKE (in), 3 VRegOut (power), 4 TXD (in), 5 VSS (power), 6 Lbus (io), 7 VBB (power), 8 ~{Fault}/TXE (io)

## MCP2515-SO
designator U?
Stand-Alone CAN Controller with SPI Interface
footprint SOIC-20 (SOIC, 20-Leads, Body 12.8x7.5mm (max), Pitch 1.27mm, IPC Medium Density)
pins: 1 TXCAN, 2 RXCAN, 3 CLKOUT/SOF, 4 ~{TX0RTS}, 5 ~{TX1RTS}, 6 ~{TX2RTS}, 7 OSC2, 8 OSC1, 9 VSS, 10 ~{RX1BF}, 11 ~{RX0BF}, 12 ~{INT}, 13 SCK, 14 SI, 15 SO, 16 ~{CS}, 17 ~{RESET}, 18 VDD

## MCP2551
designator U?
High-Speed CANTransceiver
footprint SOIC-8 (SOIC, 8-Leads, Body 5.0x4.0mm (max), Pitch 1.27mm, IPC Medium Density)
footprint DIP 8 (DIP IC (2.54mm), 8 pins)
pins: 1 TXD (in), 2 VSS (power), 3 VDD (power), 4 RXD (out), 5 Vref (out), 6 CANL (io), 7 CANH (io), 8 Rs (in)

## MCP73831/2
designator U?
Miniature Single-Cell, Fully Integrated Li-Ion, Li-Polymer Charge Management Controllers
footprint SOT-23-5 (SOT23, 5-Leads, Body 3.0x3.0mm (max), Pitch 0.95mm, IPC Medium Density)
pins: 1 Stat, 2 Vss, 3 Vbat, 4 Vdd, 5 Prog

## MIC29302WT
designator U?
3.0A LDO Regulator with ADJ. voltage output
footprint TO-263-5 (D2-PAK, 6-Pads, Body 8.9x10.4mm (max), IPC Medium Density)
pins: 1 EN, 2 IN, 3 GND, 4 OUT, 5 ADJ, 6 TAB(GND)

## MMA845xQ
designator U?
Freescale's 3-axis digital accelerometer
footprint MMA845xQ (QFN, 16-Leads, Body 3.0x3.0mm (max), Pitch 0.50mm, IPC Low Density)
pins: 1 VDDIO, 2 BYP, 4 SCL, 5 GND, 6 SDA, 7 SA0, 9 INT2, 10 GND, 11 INT1, 12 GND, 14 VDD

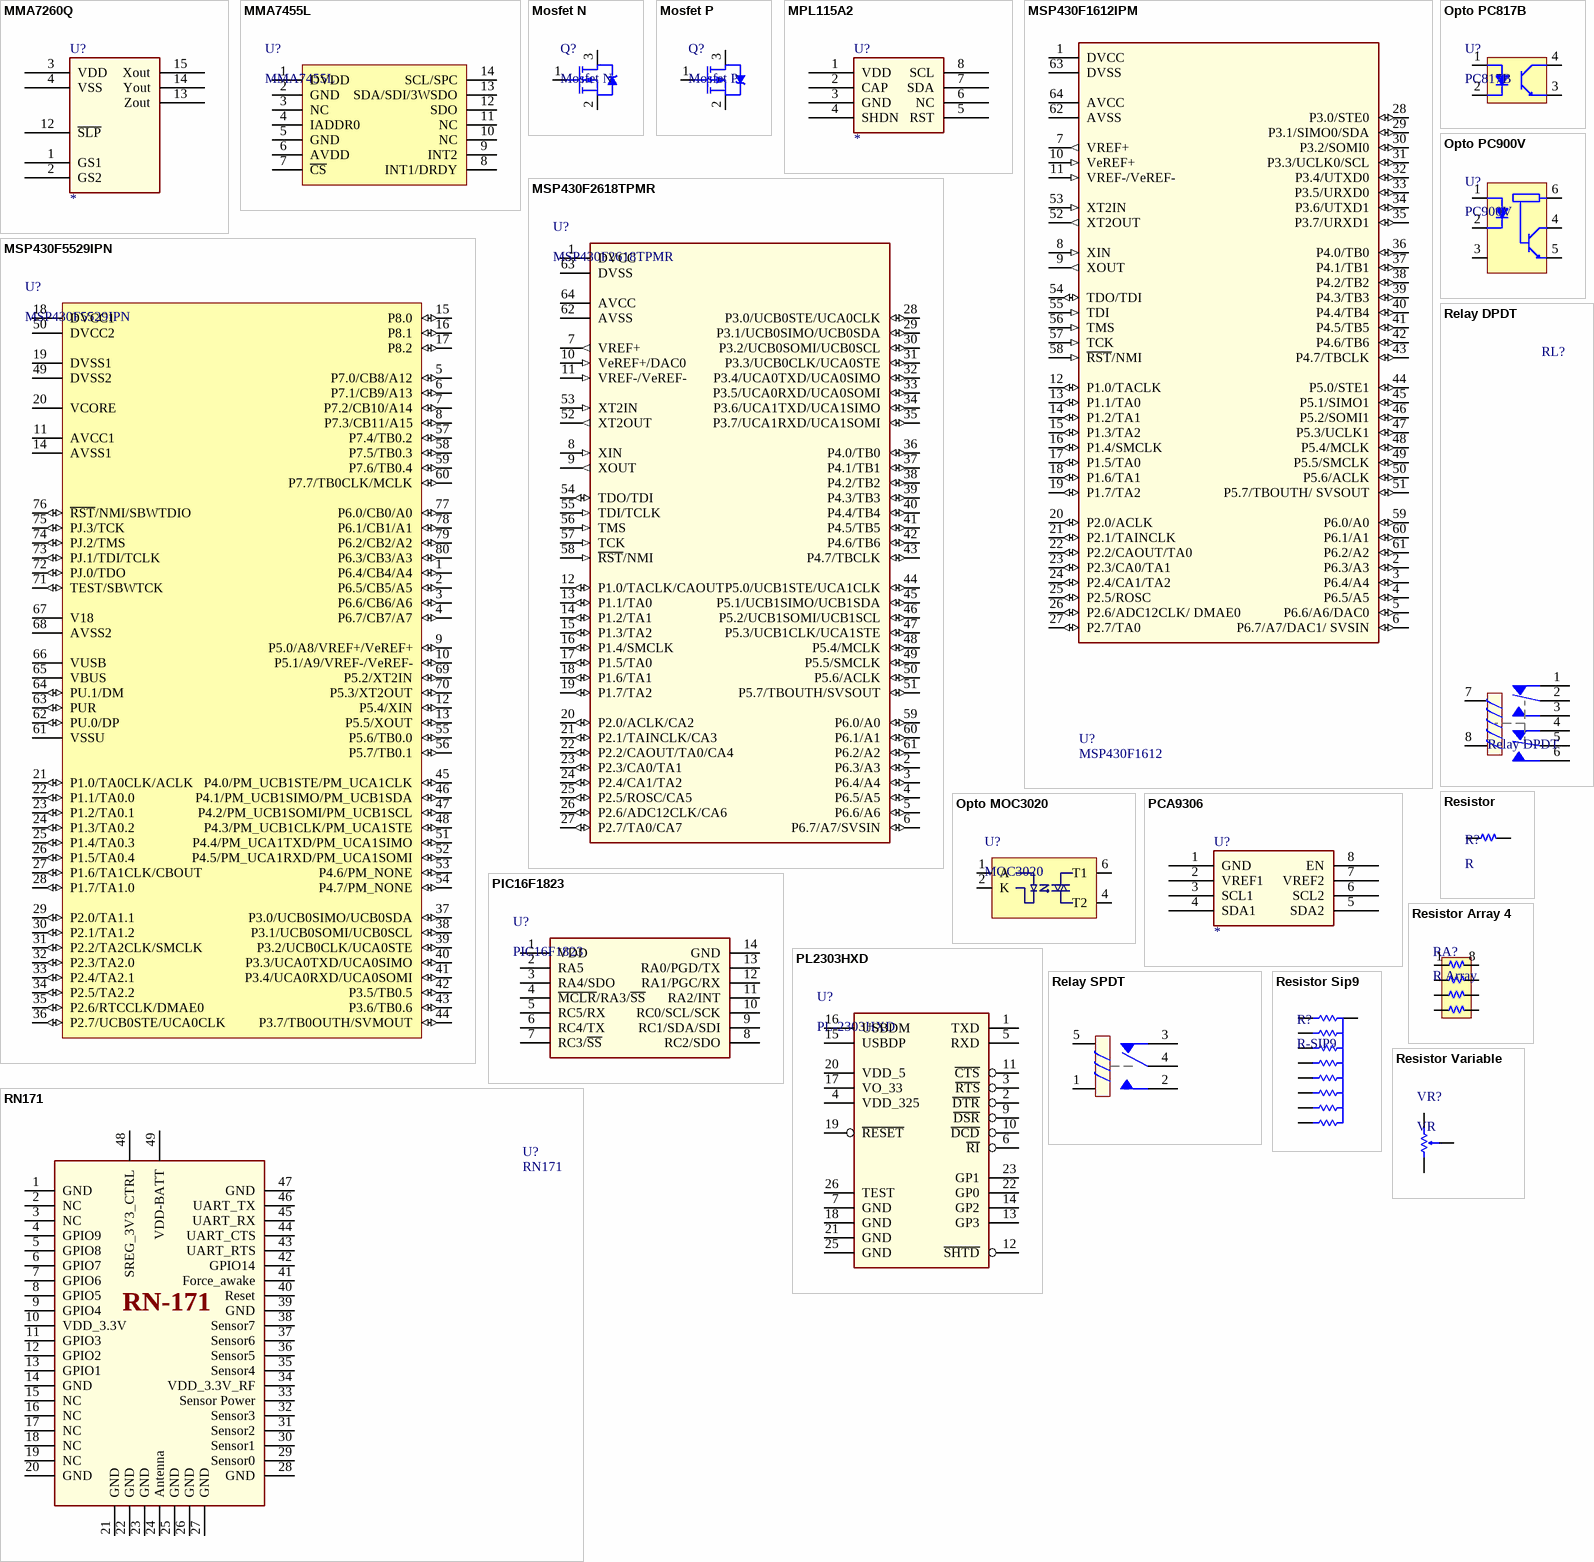
[diagram p2: symbols MMA7260Q to RN171]

## MMA7260Q
designator U?
pins: 1 GS1, 2 GS2, 3 VDD (power), 4 VSS (power), 12 ~{SLP}, 13 Zout, 14 Yout, 15 Xout

## MMA7455L
designator U?
±2g/±4g/±8g Three Axis Low-g Digital Output Accelerometer
footprint LGA-14 (LCC, 14-Pins, Body 3.0x5.0mm (max), Pitch 0.80mm, IPC Medium Density)
pins: 1 DVDD, 2 GND, 3 NC, 4 IADDR0, 5 GND, 6 AVDD, 7 ~{CS}, 8 INT1/DRDY, 9 INT2, 10 NC, 11 NC, 12 SDO, 13 SDA/SDI/3WSDO, 14 SCL/SPC

## Mosfet N
designator Q?
footprint SOT-23 (SOT23, 3-Leads, Body 3.0x2.5mm (max), Pitch 0.95mm, IPC Medium Density)
footprint TO-220; pin to pad 2>3 3>2
footprint SOIC-8 (SOIC, 8-Leads, Body 5.0x4.0mm (max), Pitch 1.27mm, IPC Medium Density); pin to pad 1>4 2>1+2+3 3>5+6+7+8
footprint TO-220/HeatSink; pin to pad 2>3 3>2
footprint TO-252 (DPAK) (D-PAK, 3-Pads, Body 6.2x6.7mm (max), IPC Medium Density); pin to pad 2>3 3>2
footprint TO-263 (D2PAK); pin to pad 2>3 3>2
pins: 1 G, 2 S, 3 D

## Mosfet P
designator Q?
footprint SOT-23 (SOT23, 3-Leads, Body 3.0x2.5mm (max), Pitch 0.95mm, IPC Medium Density)
footprint TO-220; pin to pad 2>3 3>2
footprint TO-220/HeatSink; pin to pad 2>3 3>2
footprint SOIC-8 (SOIC, 8-Leads, Body 5.0x4.0mm (max), Pitch 1.27mm, IPC Medium Density); pin to pad 1>4 2>1+2+3 3>5+6+7+8
footprint TO-252 (DPAK) (D-PAK, 3-Pads, Body 6.2x6.7mm (max), IPC Medium Density); pin to pad 2>3 3>2
footprint TO-263 (D2PAK); pin to pad 2>3 3>2
pins: 1 G, 2 S, 3 D

## MPL115A2
designator U?
pins: 1 VDD, 2 CAP, 3 GND, 4 SHDN, 5 RST, 6 NC, 7 SDA, 8 SCL

## MSP430F1612IPM
designator U?, comment MSP430F1612
footprint QFP 50P 64 (TSQFP, 64-Leads, Body 12.0x12.0mm (max), Pitch 0.50mm, IPC Medium Density)
pins: 1 DVCC (power), 2 P6.3/A3 (io), 3 P6.4/A4 (io), 4 P6.5/A5 (io), 5 P6.6/A6/DAC0 (io), 6 P6.7/A7/DAC1/ SVSIN (io), 7 VREF+ (out), 8 XIN (in), 9 XOUT (out), 10 VeREF+ (in), 11 VREF-/VeREF- (in), 12 P1.0/TACLK (io), 13 P1.1/TA0 (io), 14 P1.2/TA1 (io), 15 P1.3/TA2 (io), 16 P1.4/SMCLK (io), 17 P1.5/TA0 (io), 18 P1.6/TA1 (io), 19 P1.7/TA2 (io), 20 P2.0/ACLK (io), 21 P2.1/TAINCLK (io), 22 P2.2/CAOUT/TA0 (io), 23 P2.3/CA0/TA1 (io), 24 P2.4/CA1/TA2 (io), 25 P2.5/ROSC (io), 26 P2.6/ADC12CLK/ DMAE0 (io), 27 P2.7/TA0 (io), 28 P3.0/STE0 (io), 29 P3.1/SIMO0/SDA (io), 30 P3.2/SOMI0 (io), 31 P3.3/UCLK0/SCL (io), 32 P3.4/UTXD0 (io), 33 P3.5/URXD0 (io), 34 P3.6/UTXD1 (io), 35 P3.7/URXD1 (io), 36 P4.0/TB0 (io), 37 P4.1/TB1 (io), 38 P4.2/TB2 (io), 39 P4.3/TB3 (io), 40 P4.4/TB4 (io), 41 P4.5/TB5 (io), 42 P4.6/TB6 (io), 43 P4.7/TBCLK (io), 44 P5.0/STE1 (io), 45 P5.1/SIMO1 (io), 46 P5.2/SOMI1 (io), 47 P5.3/UCLK1 (io), 48 P5.4/MCLK (io), 49 P5.5/SMCLK (io), 50 P5.6/ACLK (io), 51 P5.7/TBOUTH/ SVSOUT (io), 52 XT2OUT (out), 53 XT2IN (in), 54 TDO/TDI (io), 55 TDI (in), 56 TMS (in), 57 TCK (in), 58 ~{RST}/NMI (in), 59 P6.0/A0 (io), 60 P6.1/A1 (io), 61 P6.2/A2 (io), 62 AVSS (power), 63 DVSS (power), 64 AVCC (power)

## MSP430F2618TPMR
designator U?
footprint QFP 50P 64 (TSQFP, 64-Leads, Body 12.0x12.0mm (max), Pitch 0.50mm, IPC Medium Density)
pins: 1 DVCC (power), 2 P6.3/A3 (io), 3 P6.4/A4 (io), 4 P6.5/A5 (io), 5 P6.6/A6 (io), 6 P6.7/A7/SVSIN (io), 7 VREF+ (out), 8 XIN (in), 9 XOUT (out), 10 VeREF+/DAC0 (in), 11 VREF-/VeREF- (in), 12 P1.0/TACLK/CAOUT (io), 13 P1.1/TA0 (io), 14 P1.2/TA1 (io), 15 P1.3/TA2 (io), 16 P1.4/SMCLK (io), 17 P1.5/TA0 (io), 18 P1.6/TA1 (io), 19 P1.7/TA2 (io), 20 P2.0/ACLK/CA2 (io), 21 P2.1/TAINCLK/CA3 (io), 22 P2.2/CAOUT/TA0/CA4 (io), 23 P2.3/CA0/TA1 (io), 24 P2.4/CA1/TA2 (io), 25 P2.5/ROSC/CA5 (io), 26 P2.6/ADC12CLK/CA6 (io), 27 P2.7/TA0/CA7 (io), 28 P3.0/UCB0STE/UCA0CLK (io), 29 P3.1/UCB0SIMO/UCB0SDA (io), 30 P3.2/UCB0SOMI/UCB0SCL (io), 31 P3.3/UCB0CLK/UCA0STE (io), 32 P3.4/UCA0TXD/UCA0SIMO (io), 33 P3.5/UCA0RXD/UCA0SOMI (io), 34 P3.6/UCA1TXD/UCA1SIMO (io), 35 P3.7/UCA1RXD/UCA1SOMI (io), 36 P4.0/TB0 (io), 37 P4.1/TB1 (io), 38 P4.2/TB2 (io), 39 P4.3/TB3 (io), 40 P4.4/TB4 (io), 41 P4.5/TB5 (io), 42 P4.6/TB6 (io), 43 P4.7/TBCLK (io), 44 P5.0/UCB1STE/UCA1CLK (io), 45 P5.1/UCB1SIMO/UCB1SDA (io), 46 P5.2/UCB1SOMI/UCB1SCL (io), 47 P5.3/UCB1CLK/UCA1STE (io), 48 P5.4/MCLK (io), 49 P5.5/SMCLK (io), 50 P5.6/ACLK (io), 51 P5.7/TBOUTH/SVSOUT (io), 52 XT2OUT (out), 53 XT2IN (in), 54 TDO/TDI (io), 55 TDI/TCLK (in), 56 TMS (in), 57 TCK (in), 58 ~{RST}/NMI (in), 59 P6.0/A0 (io), 60 P6.1/A1 (io), 61 P6.2/A2 (io), 62 AVSS (power), 63 DVSS (power), 64 AVCC (power)

## MSP430F5529IPN
designator U?
footprint QFP 50P 80 (TSQFP, 80-Leads, Body 14.2x14.2mm (max), Pitch 0.50mm, IPC Medium Density)
pins: 1 P6.4/CB4/A4 (io), 2 P6.5/CB5/A5 (io), 3 P6.6/CB6/A6 (io), 4 P6.7/CB7/A7 (io), 5 P7.0/CB8/A12 (io), 6 P7.1/CB9/A13 (io), 7 P7.2/CB10/A14 (io), 8 P7.3/CB11/A15 (io), 9 P5.0/A8/VREF+/VeREF+ (io), 10 P5.1/A9/VREF-/VeREF- (io), 11 AVCC1 (power), 12 P5.4/XIN (io), 13 P5.5/XOUT (io), 14 AVSS1 (power), 15 P8.0 (io), 16 P8.1 (io), 17 P8.2 (io), 18 DVCC1 (power), 19 DVSS1 (power), 20 VCORE (power), 21 P1.0/TA0CLK/ACLK (io), 22 P1.1/TA0.0 (io), 23 P1.2/TA0.1 (io), 24 P1.3/TA0.2 (io), 25 P1.4/TA0.3 (io), 26 P1.5/TA0.4 (io), 27 P1.6/TA1CLK/CBOUT (io), 28 P1.7/TA1.0 (io), 29 P2.0/TA1.1 (io), 30 P2.1/TA1.2 (io), 31 P2.2/TA2CLK/SMCLK (io), 32 P2.3/TA2.0 (io), 33 P2.4/TA2.1 (io), 34 P2.5/TA2.2 (io), 35 P2.6/RTCCLK/DMAE0 (io), 36 P2.7/UCB0STE/UCA0CLK (io), 37 P3.0/UCB0SIMO/UCB0SDA (io), 38 P3.1/UCB0SOMI/UCB0SCL (io), 39 P3.2/UCB0CLK/UCA0STE (io), 40 P3.3/UCA0TXD/UCA0SIMO (io), 41 P3.4/UCA0RXD/UCA0SOMI (io), 42 P3.5/TB0.5 (io), 43 P3.6/TB0.6 (io), 44 P3.7/TB0OUTH/SVMOUT (io), 45 P4.0/PM_UCB1STE/PM_UCA1CLK (io), 46 P4.1/PM_UCB1SIMO/PM_UCB1SDA (io), 47 P4.2/PM_UCB1SOMI/PM_UCB1SCL (io), 48 P4.3/PM_UCB1CLK/PM_UCA1STE (io), 49 DVSS2 (power), 50 DVCC2 (power), 51 P4.4/PM_UCA1TXD/PM_UCA1SIMO (io), 52 P4.5/PM_UCA1RXD/PM_UCA1SOMI (io), 53 P4.6/PM_NONE (io), 54 P4.7/PM_NONE (io), 55 P5.6/TB0.0 (io), 56 P5.7/TB0.1 (io), 57 P7.4/TB0.2 (io), 58 P7.5/TB0.3 (io), 59 P7.6/TB0.4 (io), 60 P7.7/TB0CLK/MCLK (io), 61 VSSU (power), 62 PU.0/DP (io), 63 PUR (io), 64 PU.1/DM (io), 65 VBUS (power), 66 VUSB (power), 67 V18 (power), 68 AVSS2 (power), 69 P5.2/XT2IN (io), 70 P5.3/XT2OUT (io), 71 TEST/SBWTCK (io), 72 PJ.0/TDO (io), 73 PJ.1/TDI/TCLK (io), 74 PJ.2/TMS (io), 75 PJ.3/TCK (io), 76 ~{RST}/NMI/SBWTDIO (io), 77 P6.0/CB0/A0 (io), 78 P6.1/CB1/A1 (io), 79 P6.2/CB2/A2 (io), 80 P6.3/CB3/A3 (io)

## Opto MOC3020
designator U?, comment MOC3020
6-Pin DIP Random-Phase Optoisolators Triac Driver Output (250/400 Volt Peak)
footprint DIP 6 (DIP IC (2.54mm), 6 pins)
pins: 1 A, 2 K, 3 NC hidden, 4 T2, 5 NC hidden, 6 T1

## Opto PC817B
designator U?, comment PC817B
footprint DIP 4 (DIP IC (2.54mm), 4 pins)
pins: 1 A, 2 K, 3 E, 4 C

## Opto PC900V
designator U?, comment PC900V
footprint DIP 6 (DIP IC (2.54mm), 6 pins)
pins: 1 A, 2 K, 3 E, 4 C, 5 C, 6 C

## PCA9306
designator U?
pins: 1 GND, 2 VREF1, 3 SCL1, 4 SDA1, 5 SDA2, 6 SCL2, 7 VREF2, 8 EN

## PIC16F1823
designator U?
PIC16(L)F1823
footprint DIP 14
footprint SOIC-14 (SOIC, 14-Leads, Body 8.6x3.9mm (max), Pitch 1.27mm, IPC Medium Density)
pins: 1 VDD, 2 RA5, 3 RA4/SDO, 4 ~{MCLR}/RA3/~{SS}, 5 RC5/RX, 6 RC4/TX, 7 RC3/~{SS}, 8 RC2/SDO, 9 RC1/SDA/SDI, 10 RC0/SCL/SCK, 11 RA2/INT, 12 RA1/PGC/RX, 13 RA0/PGD/TX, 14 GND

## PL2303HXD
designator U?, comment PL-2303HXD
USB to Serial Bridge Controller
footprint TSSOP 28 65P (SOP, 28-Leads, Body 10.5x5.6mm (max), Pitch 0.65mm, IPC Medium Density)
pins: 1 TXD, 2 ~{DTR}, 3 ~{RTS}, 4 VDD_325, 5 RXD, 6 ~{RI}, 7 GND (power), 9 ~{DSR}, 10 ~{DCD}, 11 ~{CTS}, 12 ~{SHTD}, 13 GP3, 14 GP2, 15 USBDP, 16 USBDM, 17 VO_33, 18 GND (power), 19 ~{RESET}, 20 VDD_5 (power), 21 GND (power), 22 GP0, 23 GP1, 25 GND, 26 TEST, 27 NC hidden, 28 RESERVED hidden

## Relay DPDT
designator RL?
footprint RL_DPDT_1A (Reley DPDT, 8 pin, 1A, W400mil, L800mil,H 300mil)
footprint RL_DPDT_5A (Reley DPDT, 8 pin, 5A, W500mil, L1100mil,H 950mil)
pins: 1, 2, 3, 4, 5, 6, 7, 8

## Relay SPDT
designator RL?
footprint RL_SPDT_10A (Relay SPDT, 5 pin, 10A,W 650mil, L 800mil, H 800mil)
pins: 1 COIL1, 2 NO, 3 NC, 4 COM, 5 COIL2

## Resistor
designator R?, comment R
Resistor
footprint R 1W (Through hole resitor, axial 600mils, 1W)
footprint R 5W
footprint R 0402 (Chip Resistor, 2-Leads, Body 1.0x0.5mm, IPC Medium Density)
footprint R 0603 (Chip Resistor, 2-Leads, Body 1.6x0.8mm, IPC Medium Density)
footprint R 0805 (Chip Resistor, 2-Leads, Body 2.0x1.3mm, IPC Medium Density)
footprint R 1206 (Chip Resistor, 2-Leads, Body 3.1x1.6mm, IPC Medium Density)
footprint R 1210 (Chip Resistor, 2-Leads, Body 3.2x2.5mm, IPC Medium Density)
footprint R 1812 (Chip Resistor, 2-Leads, Body 4.5x3.2mm, IPC Medium Density)
footprint R 2010 (Chip Resistor, 2-Leads, Body 5.0x2.5mm, IPC Medium Density)
footprint R 2512 (Chip Resistor, 2-Leads, Body 6.4x3.2mm, IPC Medium Density)
footprint R 1/2W/630 (Through hole resitor, axial 600mils, 1W)
footprint R 1/4W/300 (Through hole resitor, axial 300mils, 1/4W)
footprint R 1W/500 (Through hole resitor, axial 500mils, 1W)
footprint RR 0402 (Chip Capacitor, 2-Leads, Body 1.0x0.5mm, IPC Medium Density)
footprint RES_1W_V (PANASONIC)
pins: 1, 2

## Resistor Array 4
designator RA?, comment R Array
Resistor Array 4
footprint RA4 1206 (3216) (Resistor Array x4 1206 (4D03))
pins: 1, 2, 3, 4, 5, 6, 7, 8

## Resistor Sip9
designator R?, comment R-SIP9
Resistor
footprint R SIP9
pins: 1, 2, 3, 4, 5, 6, 7, 8, 9

## Resistor Variable
designator VR?, comment VR
Resistor Variable
footprint R VAR A
footprint R VAR B
footprint R VAR C
footprint R VAR D
footprint R VAR A 3D
footprint R Var Volum
footprint R Var Volum right
footprint R Var 3mm
footprint R VAR E
pins: 1, 2, 3

## RN171
designator U?
RN-171 802.11 b/g Wireless LAN Module
footprint RN171 (RN-171 802.11 b/g Wireless LAN Module)
pins: 1 GND, 2 NC, 3 NC, 4 GPIO9, 5 GPIO8, 6 GPIO7, 7 GPIO6, 8 GPIO5, 9 GPIO4, 10 VDD_3.3V, 11 GPIO3, 12 GPIO2, 13 GPIO1, 14 GND, 15 NC, 16 NC, 17 NC, 18 NC, 19 NC, 20 GND, 21 GND, 22 GND, 23 GND, 24 Antenna, 25 GND, 26 GND, 27 GND, 28 GND, 29 Sensor0 (power), 30 Sensor1 (power), 31 Sensor2 (power), 32 Sensor3 (power), 33 Sensor Power, 34 VDD_3.3V_RF, 35 Sensor4, 36 Sensor5, 37 Sensor6, 38 Sensor7, 39 GND (power), 40 Reset, 41 Force_awake, 42 GPIO14, 43 UART_RTS, 44 UART_CTS, 45 UART_RX (power), 46 UART_TX (power), 47 GND, 48 SREG_3V3_CTRL, 49 VDD-BATT
text: RN-171

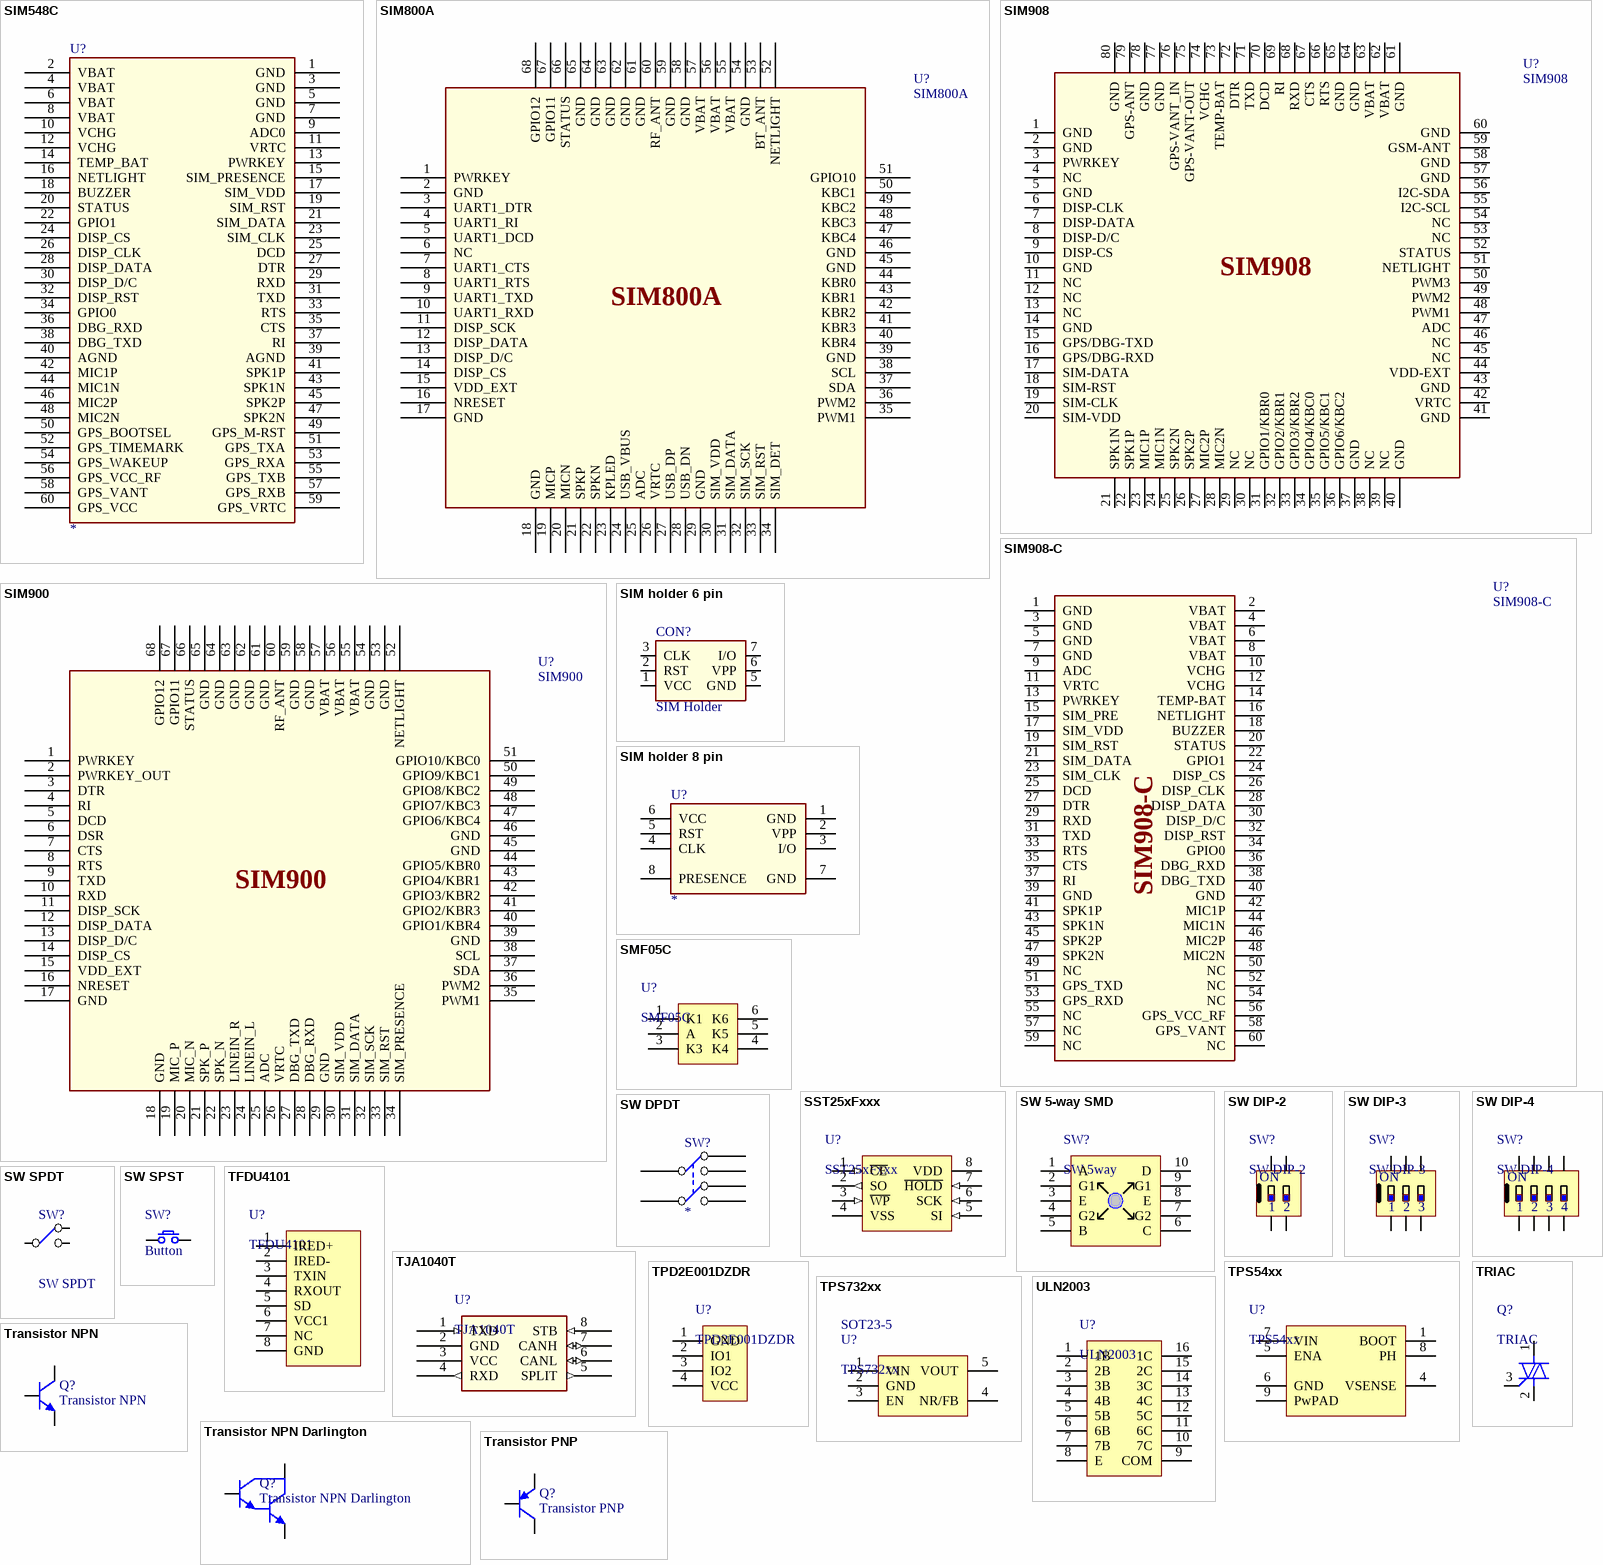
[diagram p3: symbols SIM548C to ULN2003]

## SIM548C
designator U?
pins: 1 GND, 2 VBAT, 3 GND, 4 VBAT, 5 GND, 6 VBAT, 7 GND, 8 VBAT, 9 ADC0, 10 VCHG, 11 VRTC, 12 VCHG, 13 PWRKEY, 14 TEMP_BAT, 15 SIM_PRESENCE, 16 NETLIGHT, 17 SIM_VDD, 18 BUZZER, 19 SIM_RST, 20 STATUS, 21 SIM_DATA, 22 GPIO1, 23 SIM_CLK, 24 DISP_CS, 25 DCD, 26 DISP_CLK, 27 DTR, 28 DISP_DATA, 29 RXD, 30 DISP_D/C, 31 TXD, 32 DISP_RST, 33 RTS, 34 GPIO0, 35 CTS, 36 DBG_RXD, 37 RI, 38 DBG_TXD, 39 AGND, 40 AGND, 41 SPK1P, 42 MIC1P, 43 SPK1N, 44 MIC1N, 45 SPK2P, 46 MIC2P, 47 SPK2N, 48 MIC2N, 49 GPS_M-RST, 50 GPS_BOOTSEL, 51 GPS_TXA, 52 GPS_TIMEMARK, 53 GPS_RXA, 54 GPS_WAKEUP, 55 GPS_TXB, 56 GPS_VCC_RF, 57 GPS_RXB, 58 GPS_VANT, 59 GPS_VRTC, 60 GPS_VCC

## SIM800A
designator U?
Dual-band GSM/GPRS module EGSM 900, DCS 1800; BRAND: SIMCOM; PART NO: SIM800A; TYPE: SMD
footprint SIM800
pins: 1 PWRKEY "PWRKEY should be pulled low more than 1 second then released to power on/off the module.", 2 GND "Ground", 3 UART1_DTR "Data terminal ready", 4 UART1_RI "Ring indicator", 5 UART1_DCD "Data carrier detect", 6 NC "No connection", 7 UART1_CTS "Clear to send", 8 UART1_RTS "Request to send", 9 UART1_TXD "Transmit data", 10 UART1_RXD "Receive data", 11 DISP_SCK "Display interface", 12 DISP_DATA "Display interface", 13 DISP_D/C "Display interface", 14 DISP_CS "Display interface", 15 VDD_EXT "2.8V output power supply", 16 NRESET "Reset input, active low", 17 GND (power) "Ground", 18 GND (power) "Ground", 19 MICP "Differential audio input", 20 MICN "Differential audio input", 21 SPKP "Differential audio output", 22 SPKN "Differential audio output", 23 KPLED "Sink current for keypad LED", 24 USB_VBUS "For debugging & upgrading firmware", 25 ADC "Input voltage range: 0V ~ 2.8V", 26 VRTC "Power supply for RTC", 27 USB_DP "For debugging & upgrading firmware", 28 USB_DN "For debugging & upgrading firmware", 29 GND (power) "Ground", 30 SIM_VDD "Voltage supply for SIM card. Support 1.8V or 3V SIM card", 31 SIM_DATA "SIM data input/output", 32 SIM_SCK "SIM card clock", 33 SIM_RST "SIM card reset", 34 SIM_DET "SIM card detection", 35 PWM1 "Pulse-Width Modulation", 36 PWM2 "Pulse-Width Modulation", 37 SDA "I2C bus data", 38 SCL "I2C bus clock", 39 GND (power) "Ground", 40 KBR4 "keypad row 4", 41 KBR3 "keypad row 3", 42 KBR2 "keypad row 2", 43 KBR1 "keypad row 1", 44 KBR0 "keypad row 0", 45 GND (power) "Ground", 46 GND (power) "Ground", 47 KBC4 "keypad column 4", 48 KBC3 "keypad column 3", 49 KBC2 "keypad column 2", 50 KBC1 "keypad column 1", 51 GPIO10, 52 NETLIGHT "Network status indication", 53 BT_ANT (power) "Bluetooth antenna", 54 GND (power) "Ground", 55 VBAT (power) "Power supply", 56 VBAT (power) "Power supply", 57 VBAT (power) "Power supply", 58 GND (power) "Ground", 59 GND (power) "Ground", 60 RF_ANT "GSM antenna", 61 GND (power) "Ground", 62 GND (power) "Ground", 63 GND (power) "Ground", 64 GND (power) "Ground", 65 GND (power) "Ground", 66 STATUS "Power on status indication", 67 GPIO11, 68 GPIO12

## SIM900
designator U?
Module GSM/GPRS 850/900/1800/1900MHz
footprint SIM900
pins: 1 PWRKEY, 2 PWRKEY_OUT, 3 DTR, 4 RI, 5 DCD, 6 DSR, 7 CTS, 8 RTS, 9 TXD, 10 RXD, 11 DISP_SCK, 12 DISP_DATA, 13 DISP_D/C, 14 DISP_CS, 15 VDD_EXT, 16 NRESET, 17 GND (power), 18 GND (power), 19 MIC_P, 20 MIC_N, 21 SPK_P, 22 SPK_N, 23 LINEIN_R, 24 LINEIN_L, 25 ADC, 26 VRTC, 27 DBG_TXD, 28 DBG_RXD, 29 GND (power), 30 SIM_VDD, 31 SIM_DATA, 32 SIM_SCK, 33 SIM_RST, 34 SIM_PRESENCE, 35 PWM1, 36 PWM2, 37 SDA, 38 SCL, 39 GND (power), 40 GPIO1/KBR4, 41 GPIO2/KBR3, 42 GPIO3/KBR2, 43 GPIO4/KBR1, 44 GPIO5/KBR0, 45 GND (power), 46 GND (power), 47 GPIO6/KBC4, 48 GPIO7/KBC3, 49 GPIO8/KBC2, 50 GPIO9/KBC1, 51 GPIO10/KBC0, 52 NETLIGHT, 53 GND (power), 54 GND (power), 55 VBAT (power), 56 VBAT (power), 57 VBAT (power), 58 GND (power), 59 GND (power), 60 RF_ANT, 61 GND (power), 62 GND (power), 63 GND (power), 64 GND (power), 65 GND (power), 66 STATUS, 67 GPIO11, 68 GPIO12

## SIM908
designator U?
Module GSM/GPRS 850/900/1800/1900MHz & GPS
footprint SIM908
pins: 1 GND, 2 GND, 3 PWRKEY, 4 NC, 5 GND, 6 DISP-CLK, 7 DISP-DATA, 8 DISP-D/C, 9 DISP-CS, 10 GND, 11 NC, 12 NC, 13 NC, 14 GND, 15 GPS/DBG-TXD, 16 GPS/DBG-RXD, 17 SIM-DATA, 18 SIM-RST (power), 19 SIM-CLK (power), 20 SIM-VDD, 21 SPK1N, 22 SPK1P, 23 MIC1P, 24 MIC1N, 25 SPK2N, 26 SPK2P, 27 MIC2P, 28 MIC2N, 29 NC (power), 30 NC, 31 GPIO1/KBR0, 32 GPIO2/KBR1, 33 GPIO3/KBR2, 34 GPIO4/KBC0, 35 GPIO5/KBC1, 36 GPIO6/KBC2, 37 GND, 38 NC, 39 NC (power), 40 GND, 41 GND, 42 VRTC, 43 GND, 44 VDD-EXT, 45 NC (power), 46 NC (power), 47 ADC, 48 PWM1, 49 PWM2, 50 PWM3, 51 NETLIGHT, 52 STATUS, 53 NC (power), 54 NC (power), 55 I2C-SCL (power), 56 I2C-SDA (power), 57 GND (power), 58 GND (power), 59 GSM-ANT (power), 60 GND, 61 GND (power), 62 VBAT (power), 63 VBAT (power), 64 GND (power), 65 GND (power), 66 RTS, 67 CTS, 68 RXD, 69 RI (power), 70 DCD (power), 71 TXD (power), 72 DTR (power), 73 TEMP-BAT (power), 74 VCHG, 75 GPS-VANT-OUT, 76 GPS-VANT_IN, 77 GND, 78 GND, 79 GPS-ANT, 80 GND

## SIM908-C
designator U?
Module GSM/GPRS 850/900/1800/1900MHz & GPS
footprint SIM908-C
pins: 1 GND, 2 VBAT (power), 3 GND, 4 VBAT (power), 5 GND, 6 VBAT (power), 7 GND, 8 VBAT (power), 9 ADC, 10 VCHG, 11 VRTC, 12 VCHG, 13 PWRKEY, 14 TEMP-BAT (power), 15 SIM_PRE, 16 NETLIGHT, 17 SIM_VDD, 18 BUZZER, 19 SIM_RST (power), 20 STATUS, 21 SIM_DATA, 22 GPIO1, 23 SIM_CLK (power), 24 DISP_CS, 25 DCD (power), 26 DISP_CLK, 27 DTR (power), 28 DISP_DATA, 29 RXD, 30 DISP_D/C, 31 TXD (power), 32 DISP_RST, 33 RTS, 34 GPIO0, 35 CTS, 36 DBG_RXD, 37 RI (power), 38 DBG_TXD, 39 GND (power), 40 GND, 41 SPK1P, 42 MIC1P, 43 SPK1N, 44 MIC1N, 45 SPK2P, 46 MIC2P, 47 SPK2N, 48 MIC2N, 49 NC (power), 50 NC, 51 GPS_TXD, 52 NC, 53 GPS_RXD, 54 NC, 55 NC, 56 GPS_VCC_RF, 57 NC, 58 GPS_VANT, 59 NC, 60 NC

## SIM holder 6 pin
designator CON?, comment SIM Holder
SIM Card holder, 6 pins
footprint CON SIM Holder C707 (SIM Holder,  6 pins)
footprint CON SIM Holder FMS006-2600 (SIM Holder,  6 pins)
footprint CON SIM Holder 47548 (Molex's SIM Holder,  6 pins)
footprint CON SIM Holder I9000 (Molex's SIM Holder,  6 pins)
pins: 1 VCC (power), 2 RST, 3 CLK, 5 GND (power), 6 VPP, 7 I/O

## SIM holder 8 pin
designator U?
pins: 1 GND (power), 2 VPP, 3 I/O, 4 CLK, 5 RST, 6 VCC (power), 7 GND (power), 8 PRESENCE

## SMF05C
designator U?
5-Line Transient Voltage Suppressor Array
footprint SOT-363-6 (SOT363 (SC-88, SC-70-6), 6-Leads, Body 2.2x2.2mm (max), Pitch 0.65mm, IPC Medium Density)
pins: 1 K1, 2 A, 3 K3, 4 K4, 5 K5, 6 K6

## SST25xFxxx
designator U?
Microchip's Serial Flash
footprint SOIC-8 (SOIC, 8-Leads, Body 5.0x4.0mm (max), Pitch 1.27mm, IPC Medium Density)
pins: 1 ~{CE} (in), 2 SO (out), 3 ~{WP} (in), 4 VSS (power), 5 SI (in), 6 SCK (in), 7 ~{HOLD} (in), 8 VDD (power)

## SW 5-way SMD
designator SW?, comment SW 5way
5-way tact SW, SMD Package
footprint SW 5-WAY SMD
footprint SW 5-WAY SMD 2
pins: 1 A, 2 G1, 3 E, 4 G2, 5 B, 6 C, 7 G2, 8 E, 9 G1, 10 D

## SW DIP-2
designator SW?
footprint SW/DIP2
pins: 1, 2, 3, 4
text: ON

## SW DIP-3
designator SW?
footprint SW/DIP3
pins: 1, 2, 3, 4, 5, 6
text: ON

## SW DIP-4
designator SW?
footprint SW/DIP4
pins: 1, 2, 3, 4, 5, 6, 7, 8
text: ON

## SW DPDT
designator SW?
footprint SW/DPDT/10MM
pins: 1 NC1, 2 COMMON1, 3 NO1, 4 NC2, 5 COMMON2, 6 NO2

## SW SPDT
designator SW?
footprint SW/3/SPDT/POWER
footprint SW/5/SPDT/MEDIUM
footprint SW/5/SPDT/SMALL
footprint SW/3/SPDT/SS12D10
pins: 1 NC1, 2 COMMON1, 3 NO1

## SW SPST
designator SW?, comment Button
Tact switch 2 pin
footprint SW/2/DIP
footprint SW/2/SMD
footprint SW/2/SMD/Micro
footprint SW/4/SMD
footprint SW/2/DIP/Edge/4.5mm
pins: 1, 2

## TFDU4101
designator U?
Infrared Transceiver Module (SIR, 115.2 kbit/s) for IrDA®  Applications
pins: 1 IRED+, 2 IRED-, 3 TXIN, 4 RXOUT, 5 SD, 6 VCC1, 7 NC, 8 GND

## TJA1040T
designator U?
High speed CAN transceiver, compatible with 3.3 V and 5 V devices
footprint SOIC-8 (SOIC, 8-Leads, Body 5.0x4.0mm (max), Pitch 1.27mm, IPC Medium Density)
pins: 1 TXD (in), 2 GND (power), 3 VCC (power), 4 RXD (out), 5 SPLIT (out), 6 CANL (io), 7 CANH (io), 8 STB (in)

## TPD2E001DZDR
designator U?
Low-capacitance 2 channel ±15kV ESD protection array for high-speed data interfaces
footprint SOT-143B (SOT143, 4-Leads, Body 3.0x2.6mm (max), Pitch 1.92mm, IPC Medium Density)
pins: 1 GND, 2 IO1, 3 IO2, 4 VCC

## TPS54xx
designator U?
3/5A, Wide input range, Step-down SWIFT DC-DC Converter
footprint SOIC-8 EP (SOIC, 8-Leads, Body 5.0x4.0mm (max), Pitch 1.27mm, IPC Medium Density)
pins: 1 BOOT, 4 VSENSE, 5 ENA, 6 GND, 7 VIN, 8 PH, 9 PwPAD

## TPS732xx
designator U?  PACKAGE: SOT23-5
IC REG LDO 3.3V 0.15A SOT23-5; TYPE: SMD
footprint SOT-23-5 (SOT23, 5-Leads, Body 3.0x3.0mm (max), Pitch 0.95mm, IPC Medium Density)
pins: 1 VIN, 2 GND, 3 EN, 4 NR/FB, 5 VOUT

## Transistor NPN
designator Q?
NPN Bipolar Transistor
footprint TO-92; pin to pad 1>3 2>1 3>2
footprint SOT-23 (SOT23, 3-Leads, Body 3.0x2.5mm (max), Pitch 0.95mm, IPC Medium Density)
footprint TO-126; pin to pad 1>3 2>1 3>2
footprint TO-92/W100; pin to pad 1>3 2>1 3>2
pins: 1 B, 2 E, 3 C

## Transistor NPN Darlington
designator Q?
NPN Darlington Transistor
footprint TO-220
pins: 1 B, 2 E, 3 C

## Transistor PNP
designator Q?
PNP Bipolar Transistor
footprint TO-92; pin to pad 1>3 2>1 3>2
footprint SOT-23 (SOT23, 3-Leads, Body 3.0x2.5mm (max), Pitch 0.95mm, IPC Medium Density)
footprint TO-92/W100; pin to pad 1>3 2>1 3>2
pins: 1 B, 2 E, 3 C

## TRIAC
designator Q?
footprint TO-220
pins: 1 A1, 2 A2, 3 G

## ULN2003
designator U?
High-voltage, high-current Darlington transistor arrays
footprint SOIC-16 (SOIC, 16-Leads, Body 10.0x4.0mm (max), Pitch 1.27mm, IPC Medium Density)
pins: 1 1B, 2 2B, 3 3B, 4 4B, 5 5B, 6 6B, 7 7B, 8 E, 9 COM, 10 7C, 11 6C, 12 5C, 13 4C, 14 3C, 15 2C, 16 1C

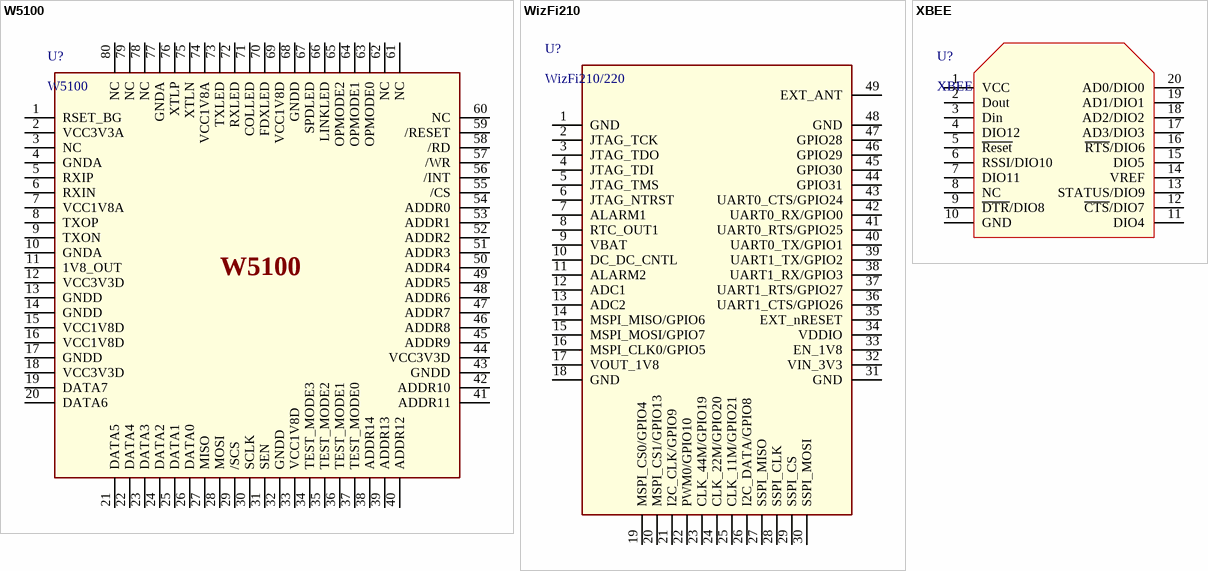
[diagram p4: symbols W5100 to XBEE]

## W5100
designator U?
Single-chip Internet-enabled 10/100 Ethernet controller
footprint QFP 40P 80 (TSQFP, 80-Leads, Body 12.0x12.0mm (max), Pitch 0.40mm, IPC Medium Density)
pins: 1 RSET_BG, 2 VCC3V3A, 3 NC, 4 GNDA, 5 RXIP, 6 RXIN, 7 VCC1V8A, 8 TXOP, 9 TXON, 10 GNDA, 11 1V8_OUT, 12 VCC3V3D, 13 GNDD, 14 GNDD, 15 VCC1V8D, 16 VCC1V8D, 17 GNDD, 18 VCC3V3D (power), 19 DATA7 (power), 20 DATA6, 21 DATA5, 22 DATA4, 23 DATA3, 24 DATA2, 25 DATA1, 26 DATA0, 27 MISO, 28 MOSI, 29 /SCS (power), 30 SCLK, 31 SEN, 32 GNDD, 33 VCC1V8D, 34 TEST_MODE3, 35 TEST_MODE2, 36 TEST_MODE1, 37 TEST_MODE0, 38 ADDR14, 39 ADDR13 (power), 40 ADDR12, 41 ADDR11, 42 ADDR10, 43 GNDD, 44 VCC3V3D, 45 ADDR9 (power), 46 ADDR8 (power), 47 ADDR7, 48 ADDR6, 49 ADDR5, 50 ADDR4, 51 ADDR3, 52 ADDR2, 53 ADDR1 (power), 54 ADDR0 (power), 55 /CS (power), 56 /INT (power), 57 /WR (power), 58 /RD (power), 59 /RESET (power), 60 NC, 61 NC (power), 62 NC (power), 63 OPMODE0 (power), 64 OPMODE1 (power), 65 OPMODE2 (power), 66 LINKLED, 67 SPDLED, 68 GNDD, 69 VCC1V8D (power), 70 FDXLED (power), 71 COLLED (power), 72 RXLED (power), 73 TXLED (power), 74 VCC1V8A, 75 XTLN, 76 XTLP, 77 GNDA, 78 NC, 79 NC, 80 NC

## WizFi210
designator U?, comment WizFi210/220
WIZnet's Serial to WiFi module
footprint WizFi210 (WIZnet's Serial to WiFi module)
pins: 1 GND, 2 JTAG_TCK, 3 JTAG_TDO, 4 JTAG_TDI, 5 JTAG_TMS, 6 JTAG_NTRST, 7 ALARM1, 8 RTC_OUT1, 9 VBAT, 10 DC_DC_CNTL, 11 ALARM2, 12 ADC1, 13 ADC2, 14 MSPI_MISO/GPIO6, 15 MSPI_MOSI/GPIO7, 16 MSPI_CLK0/GPIO5, 17 VOUT_1V8, 18 GND, 19 MSPI_CS0/GPIO4, 20 MSPI_CS1/GPIO13, 21 I2C_CLK/GPIO9, 22 PWM0/GPIO10, 23 CLK_44M/GPIO19, 24 CLK_22M/GPIO20, 25 CLK_11M/GPIO21, 26 I2C_DATA/GPIO8, 27 SSPI_MISO, 28 SSPI_CLK, 29 SSPI_CS, 30 SSPI_MOSI (power), 31 GND (power), 32 VIN_3V3 (power), 33 EN_1V8 (power), 34 VDDIO, 35 EXT_nRESET, 36 UART1_CTS/GPIO26, 37 UART1_RTS/GPIO27, 38 UART1_RX/GPIO3, 39 UART1_TX/GPIO2, 40 UART0_TX/GPIO1 (power), 41 UART0_RTS/GPIO25, 42 UART0_RX/GPIO0, 43 UART0_CTS/GPIO24, 44 GPIO31, 45 GPIO30, 46 GPIO29 (power), 47 GPIO28 (power), 48 GND, 49 EXT_ANT

## XBEE
designator U?
XBEE Module
footprint XBEE
footprint XBEE Pro
pins: 1 VCC, 2 Dout, 3 Din, 4 DIO12, 5 ~{Reset}, 6 RSSI/DIO10, 7 DIO11, 8 NC, 9 ~{DTR}/DIO8, 10 GND, 11 DIO4, 12 ~{CTS}/DIO7, 13 STATUS/DIO9, 14 VREF, 15 DIO5, 16 ~{RTS}/DIO6, 17 AD3/DIO3, 18 AD2/DIO2, 19 AD1/DIO1, 20 AD0/DIO0